# Altium integrated library Actel ACT 2.IntLib: 87 symbols (part 5 of 5)
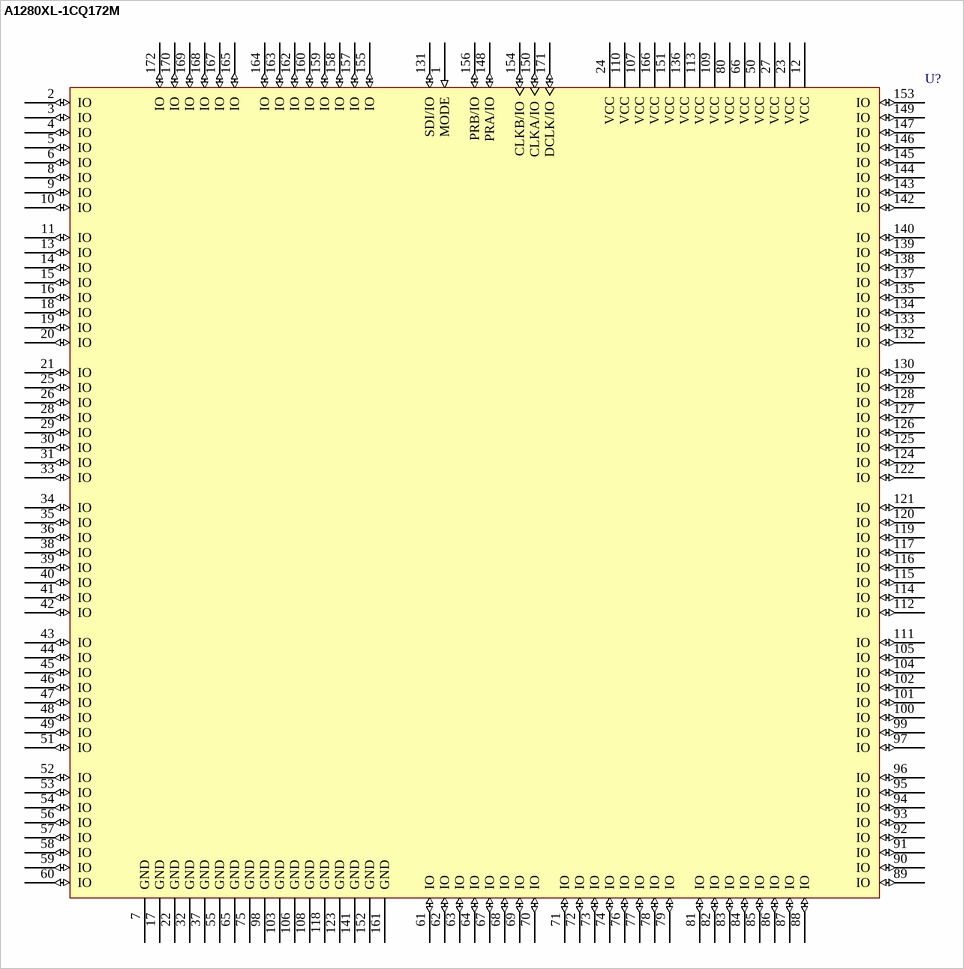
[diagram p65: symbol A1280XL-1CQ172M]

## A1280XL-1CQ172M
designator U?
1200XL Series FPGA, 140 User I/Os, 172 pin CQFP, Speed Grade 1, Military Grade; Published: 17-Sep-2003; LatestRevisionDate: 13-Apr-2006; LatestRevisionNote: IPC-7351 Footprint Added.; DatasheetVersion: ver3.0, Jan-2000; PackageVersion: v9.2, Apr-2006; PackageReference: CQ172; Publisher: Altium Limited; PackageDescription: 172-Pin Ceramic Quad Flat Pack (CQFP); Code_JEDEC: MO-113-AE; ComponentLink1Description: Manufacturer Link; ComponentLink1URL: http://www.actel.com/; ComponentLink2Description: Datasheet; ComponentLink2URL: http://www.actel.com/documents/HIRELDS.pdf
footprint CQ172_N (CQFP, 172-Leads, Body 30x30mm; Pitch 0.635mm, Gullwing Leadform, IPC Medium Density)
footprint CQ172_L (CQFP, 172-Leads, Body 30x30mm; Pitch 0.635mm, Gullwing Leadform, IPC High Density)
footprint CQ172_M (CQFP, 172-Leads, Body 30x30mm; Pitch 0.635mm, Gullwing Leadform, IPC Low Density)
3D model A1280XL-CQ172 (172-Pin Ceramic Quad Flat Pack (CQFP))
pins: 1 MODE (in), 2 IO (io), 3 IO (io), 4 IO (io), 5 IO (io), 6 IO (io), 7 GND (power), 8 IO (io), 9 IO (io), 10 IO (io), 11 IO (io), 12 VCC (power), 13 IO (io), 14 IO (io), 15 IO (io), 16 IO (io), 17 GND (power), 18 IO (io), 19 IO (io), 20 IO (io), 21 IO (io), 22 GND (power), 23 VCC (power), 24 VCC (power), 25 IO (io), 26 IO (io), 27 VCC (power), 28 IO (io), 29 IO (io), 30 IO (io), 31 IO (io), 32 GND (power), 33 IO (io), 34 IO (io), 35 IO (io), 36 IO (io), 37 GND (power), 38 IO (io), 39 IO (io), 40 IO (io), 41 IO (io), 42 IO (io), 43 IO (io), 44 IO (io), 45 IO (io), 46 IO (io), 47 IO (io), 48 IO (io), 49 IO (io), 50 VCC (power), 51 IO (io), 52 IO (io), 53 IO (io), 54 IO (io), 55 GND (power), 56 IO (io), 57 IO (io), 58 IO (io), 59 IO (io), 60 IO (io), 61 IO (io), 62 IO (io), 63 IO (io), 64 IO (io), 65 GND (power), 66 VCC (power), 67 IO (io), 68 IO (io), 69 IO (io), 70 IO (io), 71 IO (io), 72 IO (io), 73 IO (io), 74 IO (io), 75 GND (power), 76 IO (io), 77 IO (io), 78 IO (io), 79 IO (io), 80 VCC (power), 81 IO (io), 82 IO (io), 83 IO (io), 84 IO (io), 85 IO (io), 86 IO (io), 87 IO (io), 88 IO (io), 89 IO (io), 90 IO (io), 91 IO (io), 92 IO (io), 93 IO (io), 94 IO (io), 95 IO (io), 96 IO (io), 97 IO (io), 98 GND (power), 99 IO (io), 100 IO (io), 101 IO (io), 102 IO (io), 103 GND (power), 104 IO (io), 105 IO (io), 106 GND (power), 107 VCC (power), 108 GND (power), 109 VCC (power), 110 VCC (power), 111 IO (io), 112 IO (io), 113 VCC (power), 114 IO (io), 115 IO (io), 116 IO (io), 117 IO (io), 118 GND (power), 119 IO (io), 120 IO (io), 121 IO (io), 122 IO (io), 123 GND (power), 124 IO (io), 125 IO (io), 126 IO (io), 127 IO (io), 128 IO (io), 129 IO (io), 130 IO (io), 131 SDI/IO (io), 132 IO (io), 133 IO (io), 134 IO (io), 135 IO (io), 136 VCC (power), 137 IO (io), 138 IO (io), 139 IO (io), 140 IO (io), 141 GND (power), 142 IO (io), 143 IO (io), 144 IO (io), 145 IO (io), 146 IO (io), 147 IO (io), 148 PRA/IO (io), 149 IO (io), 150 CLKA/IO (io), 151 VCC (power), 152 GND (power), 153 IO (io), 154 CLKB/IO (io), 155 IO (io), 156 PRB/IO (io), 157 IO (io), 158 IO (io), 159 IO (io), 160 IO (io), 161 GND (power), 162 IO (io), 163 IO (io), 164 IO (io), 165 IO (io), 166 VCC (power), 167 IO (io), 168 IO (io), 169 IO (io), 170 IO (io), 171 DCLK/IO (io), 172 IO (io)

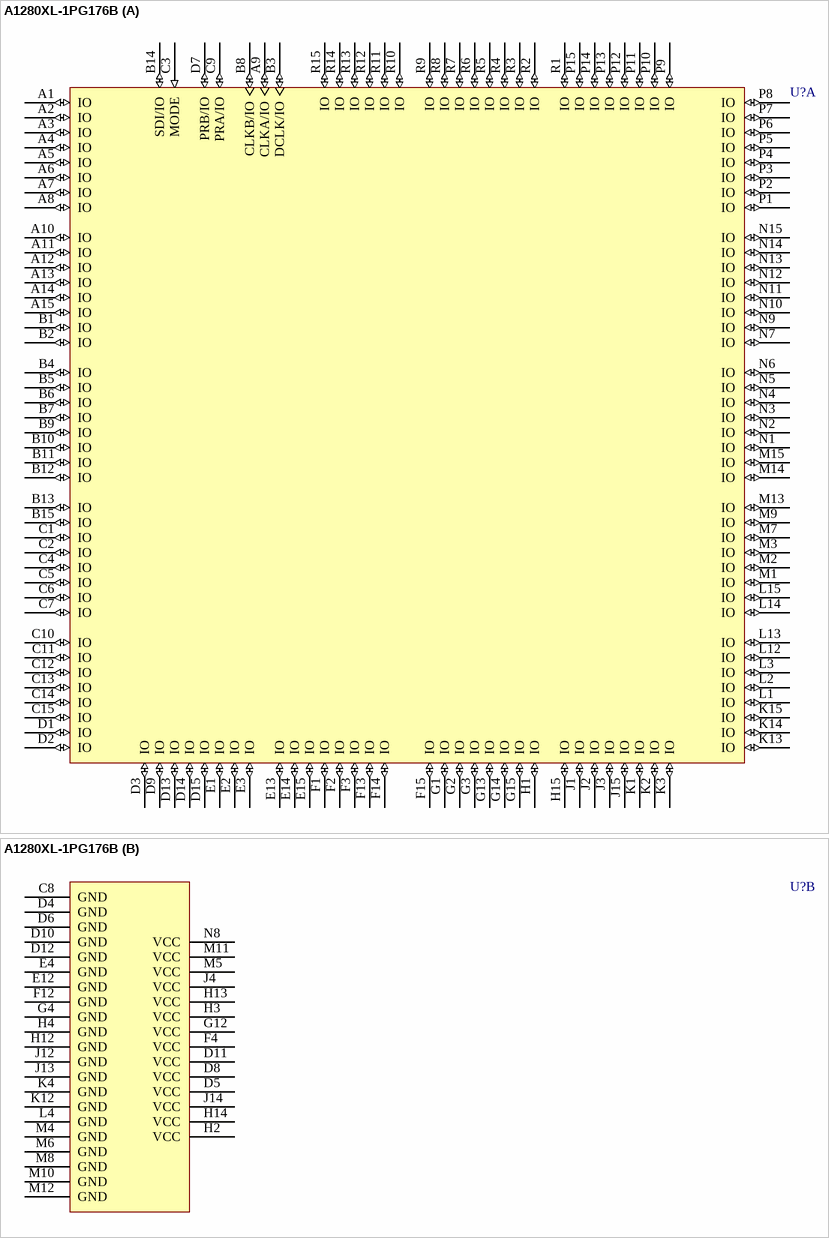
[diagram p48: symbol A1280XL-1PG176B]

## A1280XL-1PG176B
designator U?
1200XL Series FPGA, 140 User I/Os, 176 pin CPGA, Speed Grade 1, MIL-STD-883 Grade; Published: 17-Sep-2003; LatestRevisionDate: 04-Mar-2005; LatestRevisionNote: Stylized 3D Model Added.; DatasheetVersion: ver3.0, Jan-2000; PackageVersion: v9.2, Apr-2006; PackageReference: PG176; Publisher: Altium Limited; PackageDescription: 176-Pin Ceramic Pin Grid Array (PG176); ComponentLink1Description: Manufacturer Link; ComponentLink1URL: http://www.actel.com/; ComponentLink2Description: Datasheet; ComponentLink2URL: http://www.actel.com/documents/HIRELDS.pdf
footprint PG176 (PGA, 176-Leads, Body 39.9x39.9mm, Pitch 2.54mm)
3D model A1280XL-PG176 (176-Pin Ceramic Pin Grid Array (PG176))
part A pins: A1 IO (io), A2 IO (io), A3 IO (io), A4 IO (io), A5 IO (io), A6 IO (io), A7 IO (io), A8 IO (io), A9 CLKA/IO (io), A10 IO (io), A11 IO (io), A12 IO (io), A13 IO (io), A14 IO (io), A15 IO (io), B1 IO (io), B2 IO (io), B3 DCLK/IO (io), B4 IO (io), B5 IO (io), B6 IO (io), B7 IO (io), B8 CLKB/IO (io), B9 IO (io), B10 IO (io), B11 IO (io), B12 IO (io), B13 IO (io), B14 SDI/IO (io), B15 IO (io), C1 IO (io), C2 IO (io), C3 MODE (in), C4 IO (io), C5 IO (io), C6 IO (io), C7 IO (io), C9 PRA/IO (io), C10 IO (io), C11 IO (io), C12 IO (io), C13 IO (io), C14 IO (io), C15 IO (io), D1 IO (io), D2 IO (io), D3 IO (io), D7 PRB/IO (io), D9 IO (io), D13 IO (io), D14 IO (io), D15 IO (io), E1 IO (io), E2 IO (io), E3 IO (io), E13 IO (io), E14 IO (io), E15 IO (io), F1 IO (io), F2 IO (io), F3 IO (io), F13 IO (io), F14 IO (io), F15 IO (io), G1 IO (io), G2 IO (io), G3 IO (io), G13 IO (io), G14 IO (io), G15 IO (io), H1 IO (io), H15 IO (io), J1 IO (io), J2 IO (io), J3 IO (io), J15 IO (io), K1 IO (io), K2 IO (io), K3 IO (io), K13 IO (io), K14 IO (io), K15 IO (io), L1 IO (io), L2 IO (io), L3 IO (io), L12 IO (io), L13 IO (io), L14 IO (io), L15 IO (io), M1 IO (io), M2 IO (io), M3 IO (io), M7 IO (io), M9 IO (io), M13 IO (io), M14 IO (io), M15 IO (io), N1 IO (io), N2 IO (io), N3 IO (io), N4 IO (io), N5 IO (io), N6 IO (io), N7 IO (io), N9 IO (io), N10 IO (io), N11 IO (io), N12 IO (io), N13 IO (io), N14 IO (io), N15 IO (io), P1 IO (io), P2 IO (io), P3 IO (io), P4 IO (io), P5 IO (io), P6 IO (io), P7 IO (io), P8 IO (io), P9 IO (io), P10 IO (io), P11 IO (io), P12 IO (io), P13 IO (io), P14 IO (io), P15 IO (io), R1 IO (io), R2 IO (io), R3 IO (io), R4 IO (io), R5 IO (io), R6 IO (io), R7 IO (io), R8 IO (io), R9 IO (io), R10 IO (io), R11 IO (io), R12 IO (io), R13 IO (io), R14 IO (io), R15 IO (io)
part B pins: C8 GND (power), D4 GND (power), D5 VCC (power), D6 GND (power), D8 VCC (power), D10 GND (power), D11 VCC (power), D12 GND (power), E4 GND (power), E12 GND (power), F4 VCC (power), F12 GND (power), G4 GND (power), G12 VCC (power), H2 VCC (power), H3 VCC (power), H4 GND (power), H12 GND (power), H13 VCC (power), H14 VCC (power), J4 VCC (power), J12 GND (power), J13 GND (power), J14 VCC (power), K4 GND (power), K12 GND (power), L4 GND (power), M4 GND (power), M5 VCC (power), M6 GND (power), M8 GND (power), M10 GND (power), M11 VCC (power), M12 GND (power), N8 VCC (power)

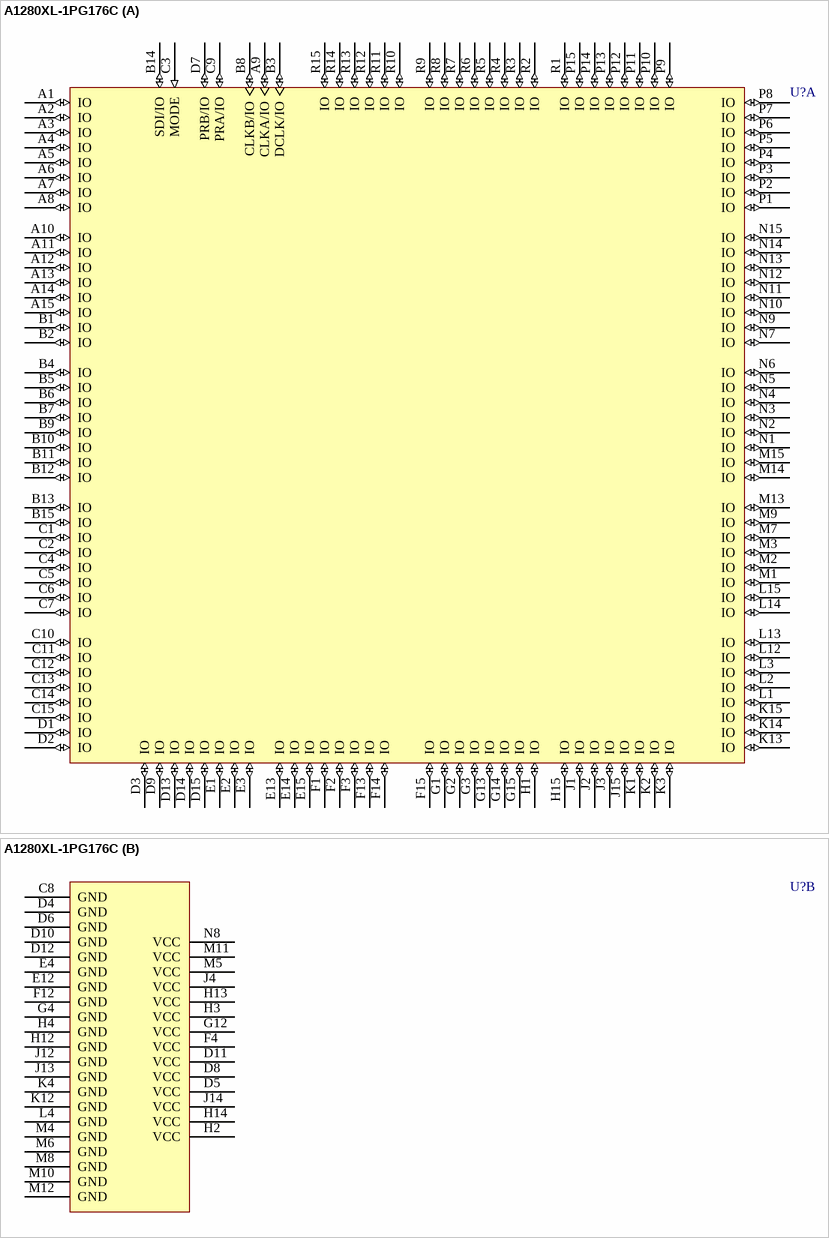
[diagram p49: symbol A1280XL-1PG176C]

## A1280XL-1PG176C
designator U?
1200XL Series FPGA, 140 User I/Os, 176 pin CPGA, Speed Grade 1, Commercial Grade; Published: 17-Sep-2003; LatestRevisionDate: 04-Mar-2005; LatestRevisionNote: Stylized 3D Model Added.; DatasheetVersion: ver3.0, Jan-2000; PackageVersion: v9.2, Apr-2006; PackageReference: PG176; Publisher: Altium Limited; PackageDescription: 176-Pin Ceramic Pin Grid Array (PG176); ComponentLink1Description: Manufacturer Link; ComponentLink1URL: http://www.actel.com/; ComponentLink2Description: Datasheet; ComponentLink2URL: http://www.actel.com/documents/HIRELDS.pdf
footprint PG176 (PGA, 176-Leads, Body 39.9x39.9mm, Pitch 2.54mm)
3D model A1280XL-PG176 (176-Pin Ceramic Pin Grid Array (PG176))
part A pins: A1 IO (io), A2 IO (io), A3 IO (io), A4 IO (io), A5 IO (io), A6 IO (io), A7 IO (io), A8 IO (io), A9 CLKA/IO (io), A10 IO (io), A11 IO (io), A12 IO (io), A13 IO (io), A14 IO (io), A15 IO (io), B1 IO (io), B2 IO (io), B3 DCLK/IO (io), B4 IO (io), B5 IO (io), B6 IO (io), B7 IO (io), B8 CLKB/IO (io), B9 IO (io), B10 IO (io), B11 IO (io), B12 IO (io), B13 IO (io), B14 SDI/IO (io), B15 IO (io), C1 IO (io), C2 IO (io), C3 MODE (in), C4 IO (io), C5 IO (io), C6 IO (io), C7 IO (io), C9 PRA/IO (io), C10 IO (io), C11 IO (io), C12 IO (io), C13 IO (io), C14 IO (io), C15 IO (io), D1 IO (io), D2 IO (io), D3 IO (io), D7 PRB/IO (io), D9 IO (io), D13 IO (io), D14 IO (io), D15 IO (io), E1 IO (io), E2 IO (io), E3 IO (io), E13 IO (io), E14 IO (io), E15 IO (io), F1 IO (io), F2 IO (io), F3 IO (io), F13 IO (io), F14 IO (io), F15 IO (io), G1 IO (io), G2 IO (io), G3 IO (io), G13 IO (io), G14 IO (io), G15 IO (io), H1 IO (io), H15 IO (io), J1 IO (io), J2 IO (io), J3 IO (io), J15 IO (io), K1 IO (io), K2 IO (io), K3 IO (io), K13 IO (io), K14 IO (io), K15 IO (io), L1 IO (io), L2 IO (io), L3 IO (io), L12 IO (io), L13 IO (io), L14 IO (io), L15 IO (io), M1 IO (io), M2 IO (io), M3 IO (io), M7 IO (io), M9 IO (io), M13 IO (io), M14 IO (io), M15 IO (io), N1 IO (io), N2 IO (io), N3 IO (io), N4 IO (io), N5 IO (io), N6 IO (io), N7 IO (io), N9 IO (io), N10 IO (io), N11 IO (io), N12 IO (io), N13 IO (io), N14 IO (io), N15 IO (io), P1 IO (io), P2 IO (io), P3 IO (io), P4 IO (io), P5 IO (io), P6 IO (io), P7 IO (io), P8 IO (io), P9 IO (io), P10 IO (io), P11 IO (io), P12 IO (io), P13 IO (io), P14 IO (io), P15 IO (io), R1 IO (io), R2 IO (io), R3 IO (io), R4 IO (io), R5 IO (io), R6 IO (io), R7 IO (io), R8 IO (io), R9 IO (io), R10 IO (io), R11 IO (io), R12 IO (io), R13 IO (io), R14 IO (io), R15 IO (io)
part B pins: C8 GND (power), D4 GND (power), D5 VCC (power), D6 GND (power), D8 VCC (power), D10 GND (power), D11 VCC (power), D12 GND (power), E4 GND (power), E12 GND (power), F4 VCC (power), F12 GND (power), G4 GND (power), G12 VCC (power), H2 VCC (power), H3 VCC (power), H4 GND (power), H12 GND (power), H13 VCC (power), H14 VCC (power), J4 VCC (power), J12 GND (power), J13 GND (power), J14 VCC (power), K4 GND (power), K12 GND (power), L4 GND (power), M4 GND (power), M5 VCC (power), M6 GND (power), M8 GND (power), M10 GND (power), M11 VCC (power), M12 GND (power), N8 VCC (power)

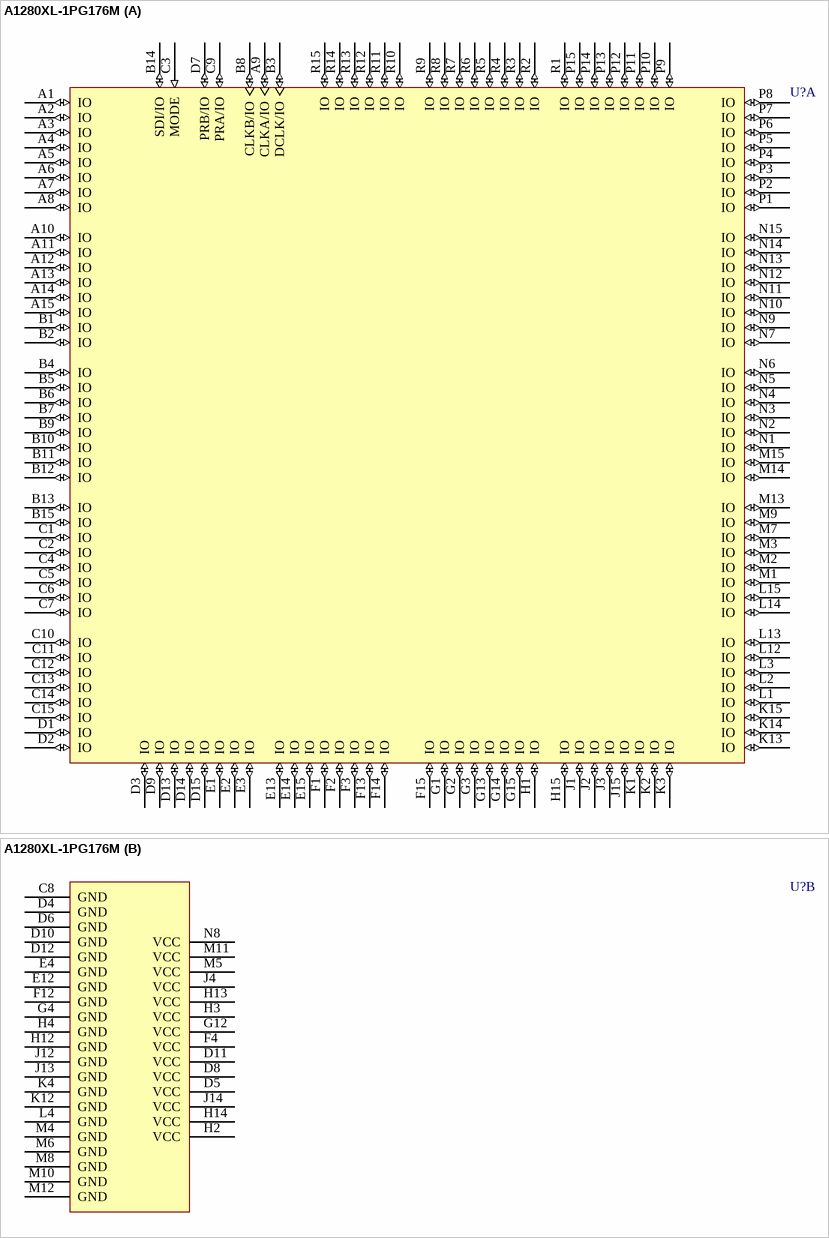
[diagram p50: symbol A1280XL-1PG176M]

## A1280XL-1PG176M
designator U?
1200XL Series FPGA, 140 User I/Os, 176 pin CPGA, Speed Grade 1, Military Grade; Published: 17-Sep-2003; LatestRevisionDate: 04-Mar-2005; LatestRevisionNote: Stylized 3D Model Added.; DatasheetVersion: ver3.0, Jan-2000; PackageVersion: v9.2, Apr-2006; PackageReference: PG176; Publisher: Altium Limited; PackageDescription: 176-Pin Ceramic Pin Grid Array (PG176); ComponentLink1Description: Manufacturer Link; ComponentLink1URL: http://www.actel.com/; ComponentLink2Description: Datasheet; ComponentLink2URL: http://www.actel.com/documents/HIRELDS.pdf
footprint PG176 (PGA, 176-Leads, Body 39.9x39.9mm, Pitch 2.54mm)
3D model A1280XL-PG176 (176-Pin Ceramic Pin Grid Array (PG176))
part A pins: A1 IO (io), A2 IO (io), A3 IO (io), A4 IO (io), A5 IO (io), A6 IO (io), A7 IO (io), A8 IO (io), A9 CLKA/IO (io), A10 IO (io), A11 IO (io), A12 IO (io), A13 IO (io), A14 IO (io), A15 IO (io), B1 IO (io), B2 IO (io), B3 DCLK/IO (io), B4 IO (io), B5 IO (io), B6 IO (io), B7 IO (io), B8 CLKB/IO (io), B9 IO (io), B10 IO (io), B11 IO (io), B12 IO (io), B13 IO (io), B14 SDI/IO (io), B15 IO (io), C1 IO (io), C2 IO (io), C3 MODE (in), C4 IO (io), C5 IO (io), C6 IO (io), C7 IO (io), C9 PRA/IO (io), C10 IO (io), C11 IO (io), C12 IO (io), C13 IO (io), C14 IO (io), C15 IO (io), D1 IO (io), D2 IO (io), D3 IO (io), D7 PRB/IO (io), D9 IO (io), D13 IO (io), D14 IO (io), D15 IO (io), E1 IO (io), E2 IO (io), E3 IO (io), E13 IO (io), E14 IO (io), E15 IO (io), F1 IO (io), F2 IO (io), F3 IO (io), F13 IO (io), F14 IO (io), F15 IO (io), G1 IO (io), G2 IO (io), G3 IO (io), G13 IO (io), G14 IO (io), G15 IO (io), H1 IO (io), H15 IO (io), J1 IO (io), J2 IO (io), J3 IO (io), J15 IO (io), K1 IO (io), K2 IO (io), K3 IO (io), K13 IO (io), K14 IO (io), K15 IO (io), L1 IO (io), L2 IO (io), L3 IO (io), L12 IO (io), L13 IO (io), L14 IO (io), L15 IO (io), M1 IO (io), M2 IO (io), M3 IO (io), M7 IO (io), M9 IO (io), M13 IO (io), M14 IO (io), M15 IO (io), N1 IO (io), N2 IO (io), N3 IO (io), N4 IO (io), N5 IO (io), N6 IO (io), N7 IO (io), N9 IO (io), N10 IO (io), N11 IO (io), N12 IO (io), N13 IO (io), N14 IO (io), N15 IO (io), P1 IO (io), P2 IO (io), P3 IO (io), P4 IO (io), P5 IO (io), P6 IO (io), P7 IO (io), P8 IO (io), P9 IO (io), P10 IO (io), P11 IO (io), P12 IO (io), P13 IO (io), P14 IO (io), P15 IO (io), R1 IO (io), R2 IO (io), R3 IO (io), R4 IO (io), R5 IO (io), R6 IO (io), R7 IO (io), R8 IO (io), R9 IO (io), R10 IO (io), R11 IO (io), R12 IO (io), R13 IO (io), R14 IO (io), R15 IO (io)
part B pins: C8 GND (power), D4 GND (power), D5 VCC (power), D6 GND (power), D8 VCC (power), D10 GND (power), D11 VCC (power), D12 GND (power), E4 GND (power), E12 GND (power), F4 VCC (power), F12 GND (power), G4 GND (power), G12 VCC (power), H2 VCC (power), H3 VCC (power), H4 GND (power), H12 GND (power), H13 VCC (power), H14 VCC (power), J4 VCC (power), J12 GND (power), J13 GND (power), J14 VCC (power), K4 GND (power), K12 GND (power), L4 GND (power), M4 GND (power), M5 VCC (power), M6 GND (power), M8 GND (power), M10 GND (power), M11 VCC (power), M12 GND (power), N8 VCC (power)

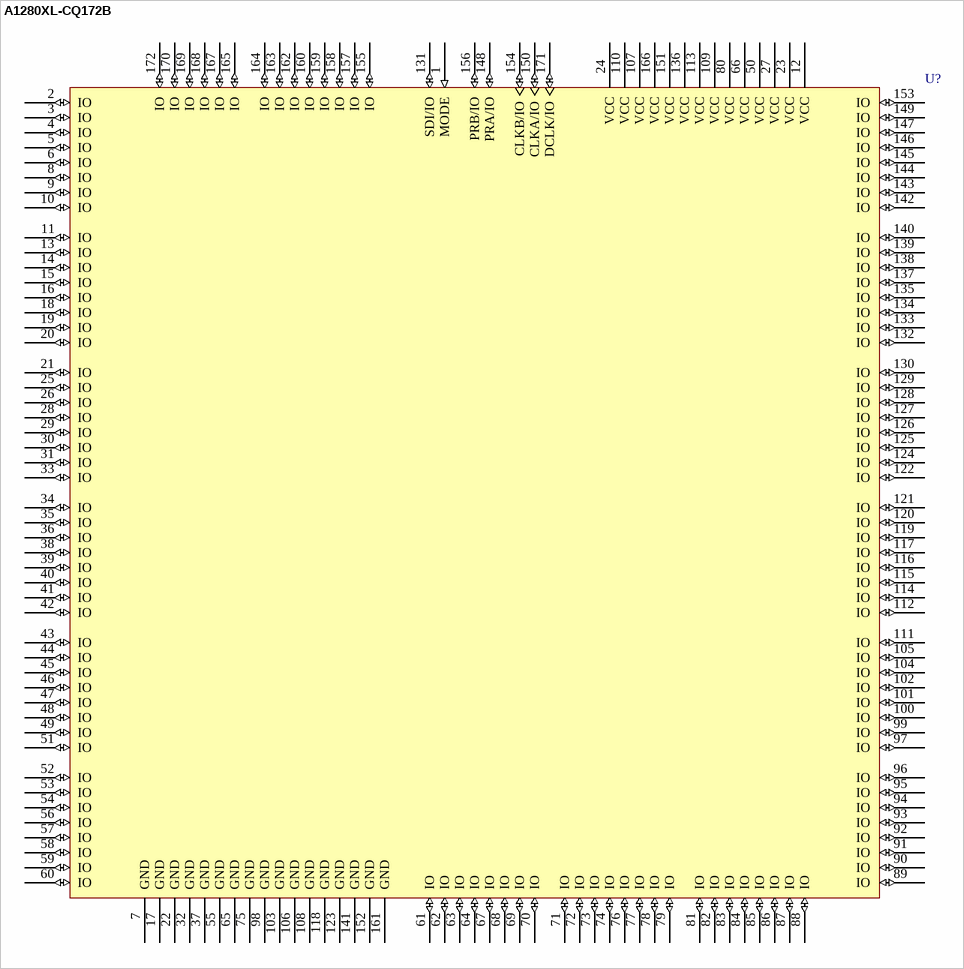
[diagram p51: symbol A1280XL-CQ172B]

## A1280XL-CQ172B
designator U?
1200XL Series FPGA, 140 User I/Os, 172 pin CQFP, Standard Speed Grade, MIL-STD-883 Grade; Published: 17-Sep-2003; LatestRevisionDate: 13-Apr-2006; LatestRevisionNote: IPC-7351 Footprint Added.; DatasheetVersion: ver3.0, Jan-2000; PackageVersion: v9.2, Apr-2006; PackageReference: CQ172; Publisher: Altium Limited; PackageDescription: 172-Pin Ceramic Quad Flat Pack (CQFP); Code_JEDEC: MO-113-AE; ComponentLink1Description: Manufacturer Link; ComponentLink1URL: http://www.actel.com/; ComponentLink2Description: Datasheet; ComponentLink2URL: http://www.actel.com/documents/HIRELDS.pdf
footprint CQ172_N (CQFP, 172-Leads, Body 30x30mm; Pitch 0.635mm, Gullwing Leadform, IPC Medium Density)
footprint CQ172_L (CQFP, 172-Leads, Body 30x30mm; Pitch 0.635mm, Gullwing Leadform, IPC High Density)
footprint CQ172_M (CQFP, 172-Leads, Body 30x30mm; Pitch 0.635mm, Gullwing Leadform, IPC Low Density)
3D model A1280XL-CQ172 (172-Pin Ceramic Quad Flat Pack (CQFP))
pins: 1 MODE (in), 2 IO (io), 3 IO (io), 4 IO (io), 5 IO (io), 6 IO (io), 7 GND (power), 8 IO (io), 9 IO (io), 10 IO (io), 11 IO (io), 12 VCC (power), 13 IO (io), 14 IO (io), 15 IO (io), 16 IO (io), 17 GND (power), 18 IO (io), 19 IO (io), 20 IO (io), 21 IO (io), 22 GND (power), 23 VCC (power), 24 VCC (power), 25 IO (io), 26 IO (io), 27 VCC (power), 28 IO (io), 29 IO (io), 30 IO (io), 31 IO (io), 32 GND (power), 33 IO (io), 34 IO (io), 35 IO (io), 36 IO (io), 37 GND (power), 38 IO (io), 39 IO (io), 40 IO (io), 41 IO (io), 42 IO (io), 43 IO (io), 44 IO (io), 45 IO (io), 46 IO (io), 47 IO (io), 48 IO (io), 49 IO (io), 50 VCC (power), 51 IO (io), 52 IO (io), 53 IO (io), 54 IO (io), 55 GND (power), 56 IO (io), 57 IO (io), 58 IO (io), 59 IO (io), 60 IO (io), 61 IO (io), 62 IO (io), 63 IO (io), 64 IO (io), 65 GND (power), 66 VCC (power), 67 IO (io), 68 IO (io), 69 IO (io), 70 IO (io), 71 IO (io), 72 IO (io), 73 IO (io), 74 IO (io), 75 GND (power), 76 IO (io), 77 IO (io), 78 IO (io), 79 IO (io), 80 VCC (power), 81 IO (io), 82 IO (io), 83 IO (io), 84 IO (io), 85 IO (io), 86 IO (io), 87 IO (io), 88 IO (io), 89 IO (io), 90 IO (io), 91 IO (io), 92 IO (io), 93 IO (io), 94 IO (io), 95 IO (io), 96 IO (io), 97 IO (io), 98 GND (power), 99 IO (io), 100 IO (io), 101 IO (io), 102 IO (io), 103 GND (power), 104 IO (io), 105 IO (io), 106 GND (power), 107 VCC (power), 108 GND (power), 109 VCC (power), 110 VCC (power), 111 IO (io), 112 IO (io), 113 VCC (power), 114 IO (io), 115 IO (io), 116 IO (io), 117 IO (io), 118 GND (power), 119 IO (io), 120 IO (io), 121 IO (io), 122 IO (io), 123 GND (power), 124 IO (io), 125 IO (io), 126 IO (io), 127 IO (io), 128 IO (io), 129 IO (io), 130 IO (io), 131 SDI/IO (io), 132 IO (io), 133 IO (io), 134 IO (io), 135 IO (io), 136 VCC (power), 137 IO (io), 138 IO (io), 139 IO (io), 140 IO (io), 141 GND (power), 142 IO (io), 143 IO (io), 144 IO (io), 145 IO (io), 146 IO (io), 147 IO (io), 148 PRA/IO (io), 149 IO (io), 150 CLKA/IO (io), 151 VCC (power), 152 GND (power), 153 IO (io), 154 CLKB/IO (io), 155 IO (io), 156 PRB/IO (io), 157 IO (io), 158 IO (io), 159 IO (io), 160 IO (io), 161 GND (power), 162 IO (io), 163 IO (io), 164 IO (io), 165 IO (io), 166 VCC (power), 167 IO (io), 168 IO (io), 169 IO (io), 170 IO (io), 171 DCLK/IO (io), 172 IO (io)

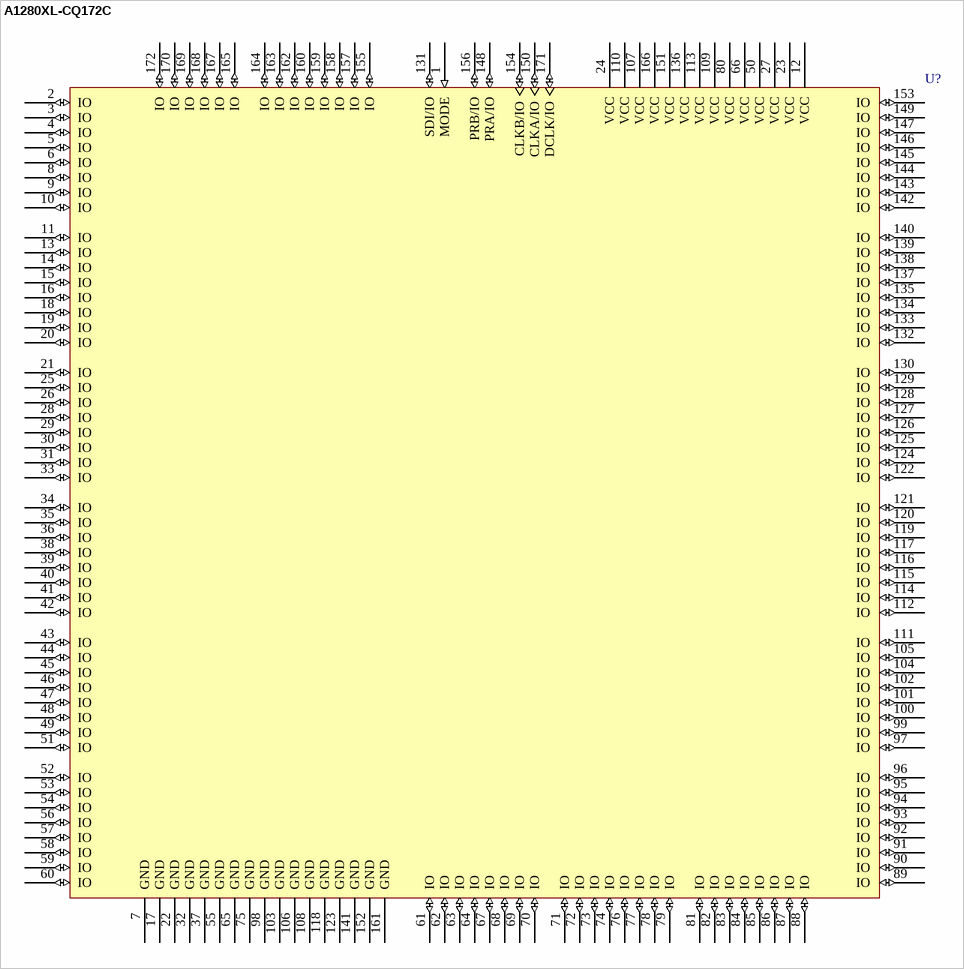
[diagram p52: symbol A1280XL-CQ172C]

## A1280XL-CQ172C
designator U?
1200XL Series FPGA, 140 User I/Os, 172 pin CQFP, Standard Speed Grade, Commercial Grade; Published: 17-Sep-2003; LatestRevisionDate: 13-Apr-2006; LatestRevisionNote: IPC-7351 Footprint Added.; DatasheetVersion: ver3.0, Jan-2000; PackageVersion: v9.2, Apr-2006; PackageReference: CQ172; Publisher: Altium Limited; PackageDescription: 172-Pin Ceramic Quad Flat Pack (CQFP); Code_JEDEC: MO-113-AE; ComponentLink1Description: Manufacturer Link; ComponentLink1URL: http://www.actel.com/; ComponentLink2Description: Datasheet; ComponentLink2URL: http://www.actel.com/documents/HIRELDS.pdf
footprint CQ172_N (CQFP, 172-Leads, Body 30x30mm; Pitch 0.635mm, Gullwing Leadform, IPC Medium Density)
footprint CQ172_L (CQFP, 172-Leads, Body 30x30mm; Pitch 0.635mm, Gullwing Leadform, IPC High Density)
footprint CQ172_M (CQFP, 172-Leads, Body 30x30mm; Pitch 0.635mm, Gullwing Leadform, IPC Low Density)
3D model A1280XL-CQ172 (172-Pin Ceramic Quad Flat Pack (CQFP))
pins: 1 MODE (in), 2 IO (io), 3 IO (io), 4 IO (io), 5 IO (io), 6 IO (io), 7 GND (power), 8 IO (io), 9 IO (io), 10 IO (io), 11 IO (io), 12 VCC (power), 13 IO (io), 14 IO (io), 15 IO (io), 16 IO (io), 17 GND (power), 18 IO (io), 19 IO (io), 20 IO (io), 21 IO (io), 22 GND (power), 23 VCC (power), 24 VCC (power), 25 IO (io), 26 IO (io), 27 VCC (power), 28 IO (io), 29 IO (io), 30 IO (io), 31 IO (io), 32 GND (power), 33 IO (io), 34 IO (io), 35 IO (io), 36 IO (io), 37 GND (power), 38 IO (io), 39 IO (io), 40 IO (io), 41 IO (io), 42 IO (io), 43 IO (io), 44 IO (io), 45 IO (io), 46 IO (io), 47 IO (io), 48 IO (io), 49 IO (io), 50 VCC (power), 51 IO (io), 52 IO (io), 53 IO (io), 54 IO (io), 55 GND (power), 56 IO (io), 57 IO (io), 58 IO (io), 59 IO (io), 60 IO (io), 61 IO (io), 62 IO (io), 63 IO (io), 64 IO (io), 65 GND (power), 66 VCC (power), 67 IO (io), 68 IO (io), 69 IO (io), 70 IO (io), 71 IO (io), 72 IO (io), 73 IO (io), 74 IO (io), 75 GND (power), 76 IO (io), 77 IO (io), 78 IO (io), 79 IO (io), 80 VCC (power), 81 IO (io), 82 IO (io), 83 IO (io), 84 IO (io), 85 IO (io), 86 IO (io), 87 IO (io), 88 IO (io), 89 IO (io), 90 IO (io), 91 IO (io), 92 IO (io), 93 IO (io), 94 IO (io), 95 IO (io), 96 IO (io), 97 IO (io), 98 GND (power), 99 IO (io), 100 IO (io), 101 IO (io), 102 IO (io), 103 GND (power), 104 IO (io), 105 IO (io), 106 GND (power), 107 VCC (power), 108 GND (power), 109 VCC (power), 110 VCC (power), 111 IO (io), 112 IO (io), 113 VCC (power), 114 IO (io), 115 IO (io), 116 IO (io), 117 IO (io), 118 GND (power), 119 IO (io), 120 IO (io), 121 IO (io), 122 IO (io), 123 GND (power), 124 IO (io), 125 IO (io), 126 IO (io), 127 IO (io), 128 IO (io), 129 IO (io), 130 IO (io), 131 SDI/IO (io), 132 IO (io), 133 IO (io), 134 IO (io), 135 IO (io), 136 VCC (power), 137 IO (io), 138 IO (io), 139 IO (io), 140 IO (io), 141 GND (power), 142 IO (io), 143 IO (io), 144 IO (io), 145 IO (io), 146 IO (io), 147 IO (io), 148 PRA/IO (io), 149 IO (io), 150 CLKA/IO (io), 151 VCC (power), 152 GND (power), 153 IO (io), 154 CLKB/IO (io), 155 IO (io), 156 PRB/IO (io), 157 IO (io), 158 IO (io), 159 IO (io), 160 IO (io), 161 GND (power), 162 IO (io), 163 IO (io), 164 IO (io), 165 IO (io), 166 VCC (power), 167 IO (io), 168 IO (io), 169 IO (io), 170 IO (io), 171 DCLK/IO (io), 172 IO (io)

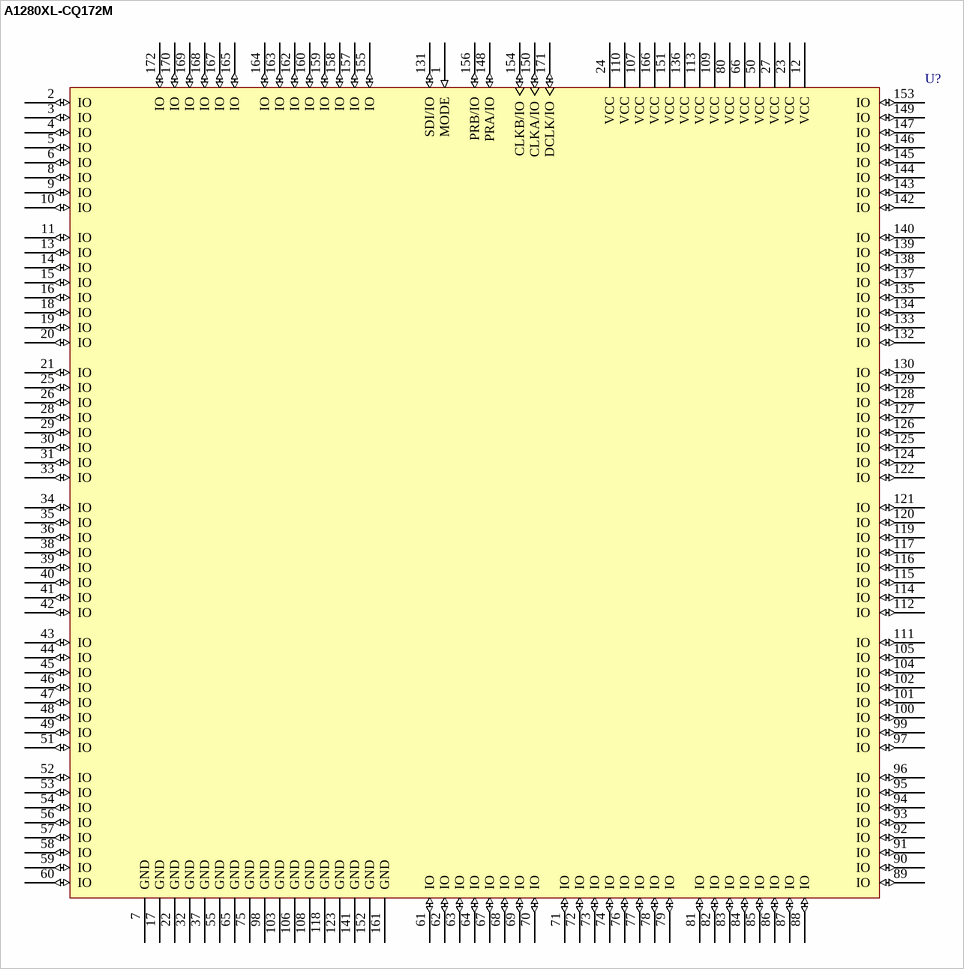
[diagram p53: symbol A1280XL-CQ172M]

## A1280XL-CQ172M
designator U?
1200XL Series FPGA, 140 User I/Os, 172 pin CQFP, Standard Speed Grade, Military Grade; Published: 17-Sep-2003; LatestRevisionDate: 13-Apr-2006; LatestRevisionNote: IPC-7351 Footprint Added.; DatasheetVersion: ver3.0, Jan-2000; PackageVersion: v9.2, Apr-2006; PackageReference: CQ172; Publisher: Altium Limited; PackageDescription: 172-Pin Ceramic Quad Flat Pack (CQFP); Code_JEDEC: MO-113-AE; ComponentLink1Description: Manufacturer Link; ComponentLink1URL: http://www.actel.com/; ComponentLink2Description: Datasheet; ComponentLink2URL: http://www.actel.com/documents/HIRELDS.pdf
footprint CQ172_N (CQFP, 172-Leads, Body 30x30mm; Pitch 0.635mm, Gullwing Leadform, IPC Medium Density)
footprint CQ172_L (CQFP, 172-Leads, Body 30x30mm; Pitch 0.635mm, Gullwing Leadform, IPC High Density)
footprint CQ172_M (CQFP, 172-Leads, Body 30x30mm; Pitch 0.635mm, Gullwing Leadform, IPC Low Density)
3D model A1280XL-CQ172 (172-Pin Ceramic Quad Flat Pack (CQFP))
pins: 1 MODE (in), 2 IO (io), 3 IO (io), 4 IO (io), 5 IO (io), 6 IO (io), 7 GND (power), 8 IO (io), 9 IO (io), 10 IO (io), 11 IO (io), 12 VCC (power), 13 IO (io), 14 IO (io), 15 IO (io), 16 IO (io), 17 GND (power), 18 IO (io), 19 IO (io), 20 IO (io), 21 IO (io), 22 GND (power), 23 VCC (power), 24 VCC (power), 25 IO (io), 26 IO (io), 27 VCC (power), 28 IO (io), 29 IO (io), 30 IO (io), 31 IO (io), 32 GND (power), 33 IO (io), 34 IO (io), 35 IO (io), 36 IO (io), 37 GND (power), 38 IO (io), 39 IO (io), 40 IO (io), 41 IO (io), 42 IO (io), 43 IO (io), 44 IO (io), 45 IO (io), 46 IO (io), 47 IO (io), 48 IO (io), 49 IO (io), 50 VCC (power), 51 IO (io), 52 IO (io), 53 IO (io), 54 IO (io), 55 GND (power), 56 IO (io), 57 IO (io), 58 IO (io), 59 IO (io), 60 IO (io), 61 IO (io), 62 IO (io), 63 IO (io), 64 IO (io), 65 GND (power), 66 VCC (power), 67 IO (io), 68 IO (io), 69 IO (io), 70 IO (io), 71 IO (io), 72 IO (io), 73 IO (io), 74 IO (io), 75 GND (power), 76 IO (io), 77 IO (io), 78 IO (io), 79 IO (io), 80 VCC (power), 81 IO (io), 82 IO (io), 83 IO (io), 84 IO (io), 85 IO (io), 86 IO (io), 87 IO (io), 88 IO (io), 89 IO (io), 90 IO (io), 91 IO (io), 92 IO (io), 93 IO (io), 94 IO (io), 95 IO (io), 96 IO (io), 97 IO (io), 98 GND (power), 99 IO (io), 100 IO (io), 101 IO (io), 102 IO (io), 103 GND (power), 104 IO (io), 105 IO (io), 106 GND (power), 107 VCC (power), 108 GND (power), 109 VCC (power), 110 VCC (power), 111 IO (io), 112 IO (io), 113 VCC (power), 114 IO (io), 115 IO (io), 116 IO (io), 117 IO (io), 118 GND (power), 119 IO (io), 120 IO (io), 121 IO (io), 122 IO (io), 123 GND (power), 124 IO (io), 125 IO (io), 126 IO (io), 127 IO (io), 128 IO (io), 129 IO (io), 130 IO (io), 131 SDI/IO (io), 132 IO (io), 133 IO (io), 134 IO (io), 135 IO (io), 136 VCC (power), 137 IO (io), 138 IO (io), 139 IO (io), 140 IO (io), 141 GND (power), 142 IO (io), 143 IO (io), 144 IO (io), 145 IO (io), 146 IO (io), 147 IO (io), 148 PRA/IO (io), 149 IO (io), 150 CLKA/IO (io), 151 VCC (power), 152 GND (power), 153 IO (io), 154 CLKB/IO (io), 155 IO (io), 156 PRB/IO (io), 157 IO (io), 158 IO (io), 159 IO (io), 160 IO (io), 161 GND (power), 162 IO (io), 163 IO (io), 164 IO (io), 165 IO (io), 166 VCC (power), 167 IO (io), 168 IO (io), 169 IO (io), 170 IO (io), 171 DCLK/IO (io), 172 IO (io)

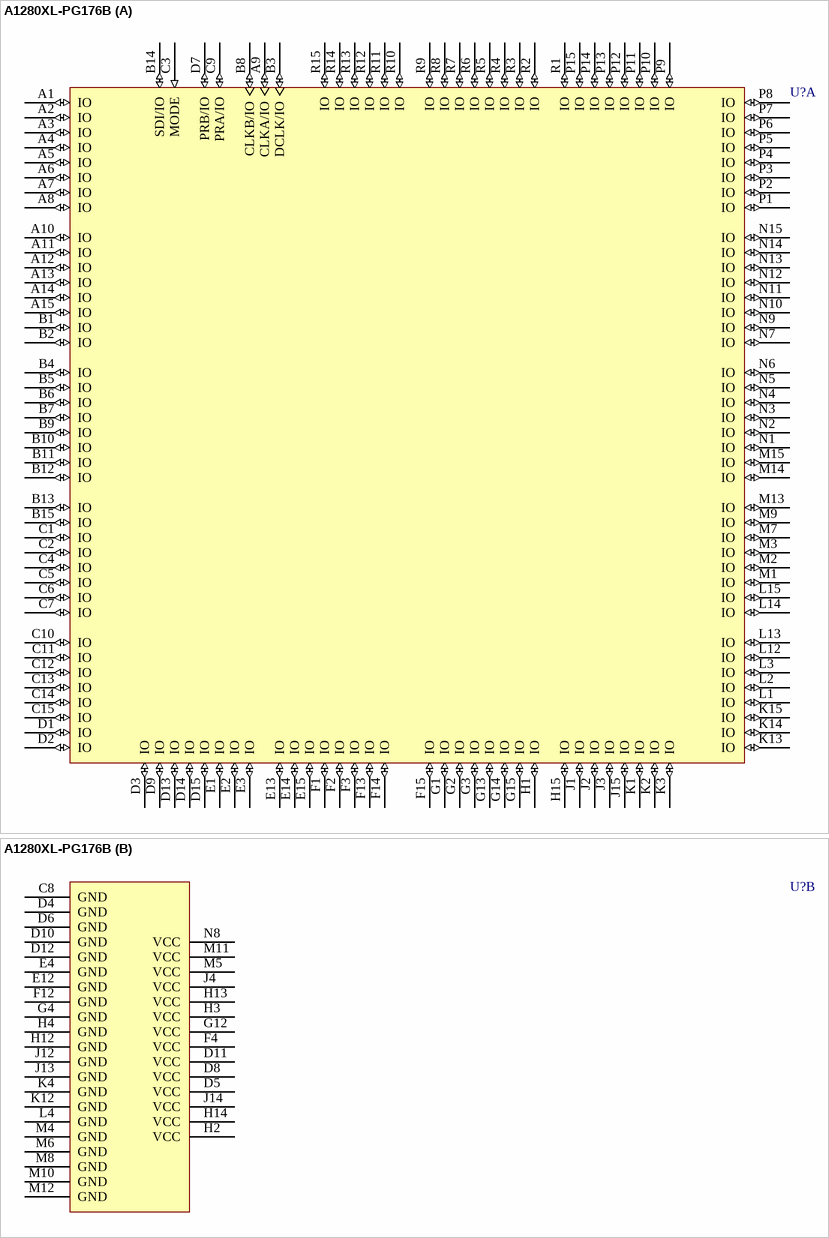
[diagram p54: symbol A1280XL-PG176B]

## A1280XL-PG176B
designator U?
1200XL Series FPGA, 140 User I/Os, 176 pin CPGA, Standard Speed Grade, MIL-STD-883 Grade; Published: 17-Sep-2003; LatestRevisionDate: 04-Mar-2005; LatestRevisionNote: Stylized 3D Model Added.; DatasheetVersion: ver3.0, Jan-2000; PackageVersion: v9.2, Apr-2006; PackageReference: PG176; Publisher: Altium Limited; PackageDescription: 176-Pin Ceramic Pin Grid Array (PG176); ComponentLink1Description: Manufacturer Link; ComponentLink1URL: http://www.actel.com/; ComponentLink2Description: Datasheet; ComponentLink2URL: http://www.actel.com/documents/HIRELDS.pdf
footprint PG176 (PGA, 176-Leads, Body 39.9x39.9mm, Pitch 2.54mm)
3D model A1280XL-PG176 (176-Pin Ceramic Pin Grid Array (PG176))
part A pins: A1 IO (io), A2 IO (io), A3 IO (io), A4 IO (io), A5 IO (io), A6 IO (io), A7 IO (io), A8 IO (io), A9 CLKA/IO (io), A10 IO (io), A11 IO (io), A12 IO (io), A13 IO (io), A14 IO (io), A15 IO (io), B1 IO (io), B2 IO (io), B3 DCLK/IO (io), B4 IO (io), B5 IO (io), B6 IO (io), B7 IO (io), B8 CLKB/IO (io), B9 IO (io), B10 IO (io), B11 IO (io), B12 IO (io), B13 IO (io), B14 SDI/IO (io), B15 IO (io), C1 IO (io), C2 IO (io), C3 MODE (in), C4 IO (io), C5 IO (io), C6 IO (io), C7 IO (io), C9 PRA/IO (io), C10 IO (io), C11 IO (io), C12 IO (io), C13 IO (io), C14 IO (io), C15 IO (io), D1 IO (io), D2 IO (io), D3 IO (io), D7 PRB/IO (io), D9 IO (io), D13 IO (io), D14 IO (io), D15 IO (io), E1 IO (io), E2 IO (io), E3 IO (io), E13 IO (io), E14 IO (io), E15 IO (io), F1 IO (io), F2 IO (io), F3 IO (io), F13 IO (io), F14 IO (io), F15 IO (io), G1 IO (io), G2 IO (io), G3 IO (io), G13 IO (io), G14 IO (io), G15 IO (io), H1 IO (io), H15 IO (io), J1 IO (io), J2 IO (io), J3 IO (io), J15 IO (io), K1 IO (io), K2 IO (io), K3 IO (io), K13 IO (io), K14 IO (io), K15 IO (io), L1 IO (io), L2 IO (io), L3 IO (io), L12 IO (io), L13 IO (io), L14 IO (io), L15 IO (io), M1 IO (io), M2 IO (io), M3 IO (io), M7 IO (io), M9 IO (io), M13 IO (io), M14 IO (io), M15 IO (io), N1 IO (io), N2 IO (io), N3 IO (io), N4 IO (io), N5 IO (io), N6 IO (io), N7 IO (io), N9 IO (io), N10 IO (io), N11 IO (io), N12 IO (io), N13 IO (io), N14 IO (io), N15 IO (io), P1 IO (io), P2 IO (io), P3 IO (io), P4 IO (io), P5 IO (io), P6 IO (io), P7 IO (io), P8 IO (io), P9 IO (io), P10 IO (io), P11 IO (io), P12 IO (io), P13 IO (io), P14 IO (io), P15 IO (io), R1 IO (io), R2 IO (io), R3 IO (io), R4 IO (io), R5 IO (io), R6 IO (io), R7 IO (io), R8 IO (io), R9 IO (io), R10 IO (io), R11 IO (io), R12 IO (io), R13 IO (io), R14 IO (io), R15 IO (io)
part B pins: C8 GND (power), D4 GND (power), D5 VCC (power), D6 GND (power), D8 VCC (power), D10 GND (power), D11 VCC (power), D12 GND (power), E4 GND (power), E12 GND (power), F4 VCC (power), F12 GND (power), G4 GND (power), G12 VCC (power), H2 VCC (power), H3 VCC (power), H4 GND (power), H12 GND (power), H13 VCC (power), H14 VCC (power), J4 VCC (power), J12 GND (power), J13 GND (power), J14 VCC (power), K4 GND (power), K12 GND (power), L4 GND (power), M4 GND (power), M5 VCC (power), M6 GND (power), M8 GND (power), M10 GND (power), M11 VCC (power), M12 GND (power), N8 VCC (power)

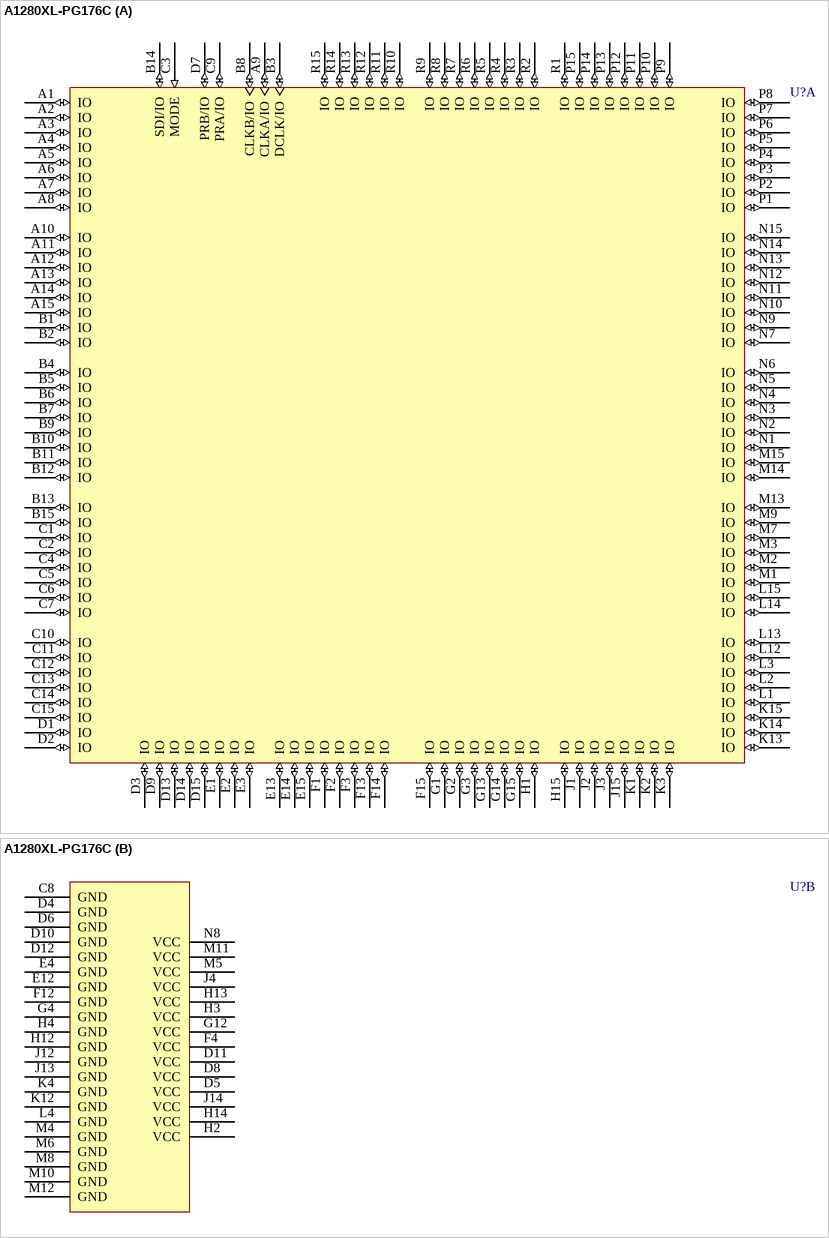
[diagram p55: symbol A1280XL-PG176C]

## A1280XL-PG176C
designator U?
1200XL Series FPGA, 140 User I/Os, 176 pin CPGA, Standard Speed Grade, Commercial Grade; Published: 17-Sep-2003; LatestRevisionDate: 04-Mar-2005; LatestRevisionNote: Stylized 3D Model Added.; DatasheetVersion: ver3.0, Jan-2000; PackageVersion: v9.2, Apr-2006; PackageReference: PG176; Publisher: Altium Limited; PackageDescription: 176-Pin Ceramic Pin Grid Array (PG176); ComponentLink1Description: Manufacturer Link; ComponentLink1URL: http://www.actel.com/; ComponentLink2Description: Datasheet; ComponentLink2URL: http://www.actel.com/documents/HIRELDS.pdf
footprint PG176 (PGA, 176-Leads, Body 39.9x39.9mm, Pitch 2.54mm)
3D model A1280XL-PG176 (176-Pin Ceramic Pin Grid Array (PG176))
part A pins: A1 IO (io), A2 IO (io), A3 IO (io), A4 IO (io), A5 IO (io), A6 IO (io), A7 IO (io), A8 IO (io), A9 CLKA/IO (io), A10 IO (io), A11 IO (io), A12 IO (io), A13 IO (io), A14 IO (io), A15 IO (io), B1 IO (io), B2 IO (io), B3 DCLK/IO (io), B4 IO (io), B5 IO (io), B6 IO (io), B7 IO (io), B8 CLKB/IO (io), B9 IO (io), B10 IO (io), B11 IO (io), B12 IO (io), B13 IO (io), B14 SDI/IO (io), B15 IO (io), C1 IO (io), C2 IO (io), C3 MODE (in), C4 IO (io), C5 IO (io), C6 IO (io), C7 IO (io), C9 PRA/IO (io), C10 IO (io), C11 IO (io), C12 IO (io), C13 IO (io), C14 IO (io), C15 IO (io), D1 IO (io), D2 IO (io), D3 IO (io), D7 PRB/IO (io), D9 IO (io), D13 IO (io), D14 IO (io), D15 IO (io), E1 IO (io), E2 IO (io), E3 IO (io), E13 IO (io), E14 IO (io), E15 IO (io), F1 IO (io), F2 IO (io), F3 IO (io), F13 IO (io), F14 IO (io), F15 IO (io), G1 IO (io), G2 IO (io), G3 IO (io), G13 IO (io), G14 IO (io), G15 IO (io), H1 IO (io), H15 IO (io), J1 IO (io), J2 IO (io), J3 IO (io), J15 IO (io), K1 IO (io), K2 IO (io), K3 IO (io), K13 IO (io), K14 IO (io), K15 IO (io), L1 IO (io), L2 IO (io), L3 IO (io), L12 IO (io), L13 IO (io), L14 IO (io), L15 IO (io), M1 IO (io), M2 IO (io), M3 IO (io), M7 IO (io), M9 IO (io), M13 IO (io), M14 IO (io), M15 IO (io), N1 IO (io), N2 IO (io), N3 IO (io), N4 IO (io), N5 IO (io), N6 IO (io), N7 IO (io), N9 IO (io), N10 IO (io), N11 IO (io), N12 IO (io), N13 IO (io), N14 IO (io), N15 IO (io), P1 IO (io), P2 IO (io), P3 IO (io), P4 IO (io), P5 IO (io), P6 IO (io), P7 IO (io), P8 IO (io), P9 IO (io), P10 IO (io), P11 IO (io), P12 IO (io), P13 IO (io), P14 IO (io), P15 IO (io), R1 IO (io), R2 IO (io), R3 IO (io), R4 IO (io), R5 IO (io), R6 IO (io), R7 IO (io), R8 IO (io), R9 IO (io), R10 IO (io), R11 IO (io), R12 IO (io), R13 IO (io), R14 IO (io), R15 IO (io)
part B pins: C8 GND (power), D4 GND (power), D5 VCC (power), D6 GND (power), D8 VCC (power), D10 GND (power), D11 VCC (power), D12 GND (power), E4 GND (power), E12 GND (power), F4 VCC (power), F12 GND (power), G4 GND (power), G12 VCC (power), H2 VCC (power), H3 VCC (power), H4 GND (power), H12 GND (power), H13 VCC (power), H14 VCC (power), J4 VCC (power), J12 GND (power), J13 GND (power), J14 VCC (power), K4 GND (power), K12 GND (power), L4 GND (power), M4 GND (power), M5 VCC (power), M6 GND (power), M8 GND (power), M10 GND (power), M11 VCC (power), M12 GND (power), N8 VCC (power)

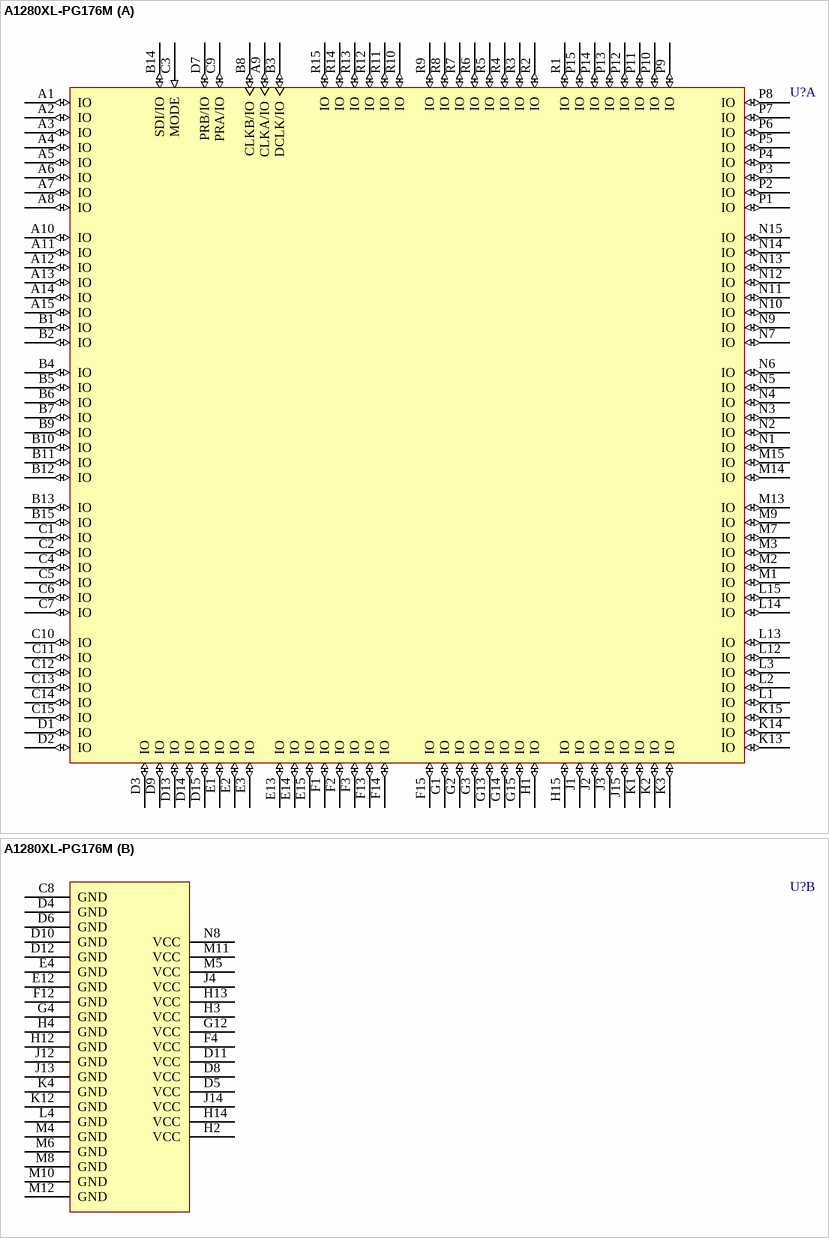
[diagram p56: symbol A1280XL-PG176M]

## A1280XL-PG176M
designator U?
1200XL Series FPGA, 140 User I/Os, 176 pin CPGA, Standard Speed Grade, Military Grade; Published: 17-Sep-2003; LatestRevisionDate: 04-Mar-2005; LatestRevisionNote: Stylized 3D Model Added.; DatasheetVersion: ver3.0, Jan-2000; PackageVersion: v9.2, Apr-2006; PackageReference: PG176; Publisher: Altium Limited; PackageDescription: 176-Pin Ceramic Pin Grid Array (PG176); ComponentLink1Description: Manufacturer Link; ComponentLink1URL: http://www.actel.com/; ComponentLink2Description: Datasheet; ComponentLink2URL: http://www.actel.com/documents/HIRELDS.pdf
footprint PG176 (PGA, 176-Leads, Body 39.9x39.9mm, Pitch 2.54mm)
3D model A1280XL-PG176 (176-Pin Ceramic Pin Grid Array (PG176))
part A pins: A1 IO (io), A2 IO (io), A3 IO (io), A4 IO (io), A5 IO (io), A6 IO (io), A7 IO (io), A8 IO (io), A9 CLKA/IO (io), A10 IO (io), A11 IO (io), A12 IO (io), A13 IO (io), A14 IO (io), A15 IO (io), B1 IO (io), B2 IO (io), B3 DCLK/IO (io), B4 IO (io), B5 IO (io), B6 IO (io), B7 IO (io), B8 CLKB/IO (io), B9 IO (io), B10 IO (io), B11 IO (io), B12 IO (io), B13 IO (io), B14 SDI/IO (io), B15 IO (io), C1 IO (io), C2 IO (io), C3 MODE (in), C4 IO (io), C5 IO (io), C6 IO (io), C7 IO (io), C9 PRA/IO (io), C10 IO (io), C11 IO (io), C12 IO (io), C13 IO (io), C14 IO (io), C15 IO (io), D1 IO (io), D2 IO (io), D3 IO (io), D7 PRB/IO (io), D9 IO (io), D13 IO (io), D14 IO (io), D15 IO (io), E1 IO (io), E2 IO (io), E3 IO (io), E13 IO (io), E14 IO (io), E15 IO (io), F1 IO (io), F2 IO (io), F3 IO (io), F13 IO (io), F14 IO (io), F15 IO (io), G1 IO (io), G2 IO (io), G3 IO (io), G13 IO (io), G14 IO (io), G15 IO (io), H1 IO (io), H15 IO (io), J1 IO (io), J2 IO (io), J3 IO (io), J15 IO (io), K1 IO (io), K2 IO (io), K3 IO (io), K13 IO (io), K14 IO (io), K15 IO (io), L1 IO (io), L2 IO (io), L3 IO (io), L12 IO (io), L13 IO (io), L14 IO (io), L15 IO (io), M1 IO (io), M2 IO (io), M3 IO (io), M7 IO (io), M9 IO (io), M13 IO (io), M14 IO (io), M15 IO (io), N1 IO (io), N2 IO (io), N3 IO (io), N4 IO (io), N5 IO (io), N6 IO (io), N7 IO (io), N9 IO (io), N10 IO (io), N11 IO (io), N12 IO (io), N13 IO (io), N14 IO (io), N15 IO (io), P1 IO (io), P2 IO (io), P3 IO (io), P4 IO (io), P5 IO (io), P6 IO (io), P7 IO (io), P8 IO (io), P9 IO (io), P10 IO (io), P11 IO (io), P12 IO (io), P13 IO (io), P14 IO (io), P15 IO (io), R1 IO (io), R2 IO (io), R3 IO (io), R4 IO (io), R5 IO (io), R6 IO (io), R7 IO (io), R8 IO (io), R9 IO (io), R10 IO (io), R11 IO (io), R12 IO (io), R13 IO (io), R14 IO (io), R15 IO (io)
part B pins: C8 GND (power), D4 GND (power), D5 VCC (power), D6 GND (power), D8 VCC (power), D10 GND (power), D11 VCC (power), D12 GND (power), E4 GND (power), E12 GND (power), F4 VCC (power), F12 GND (power), G4 GND (power), G12 VCC (power), H2 VCC (power), H3 VCC (power), H4 GND (power), H12 GND (power), H13 VCC (power), H14 VCC (power), J4 VCC (power), J12 GND (power), J13 GND (power), J14 VCC (power), K4 GND (power), K12 GND (power), L4 GND (power), M4 GND (power), M5 VCC (power), M6 GND (power), M8 GND (power), M10 GND (power), M11 VCC (power), M12 GND (power), N8 VCC (power)

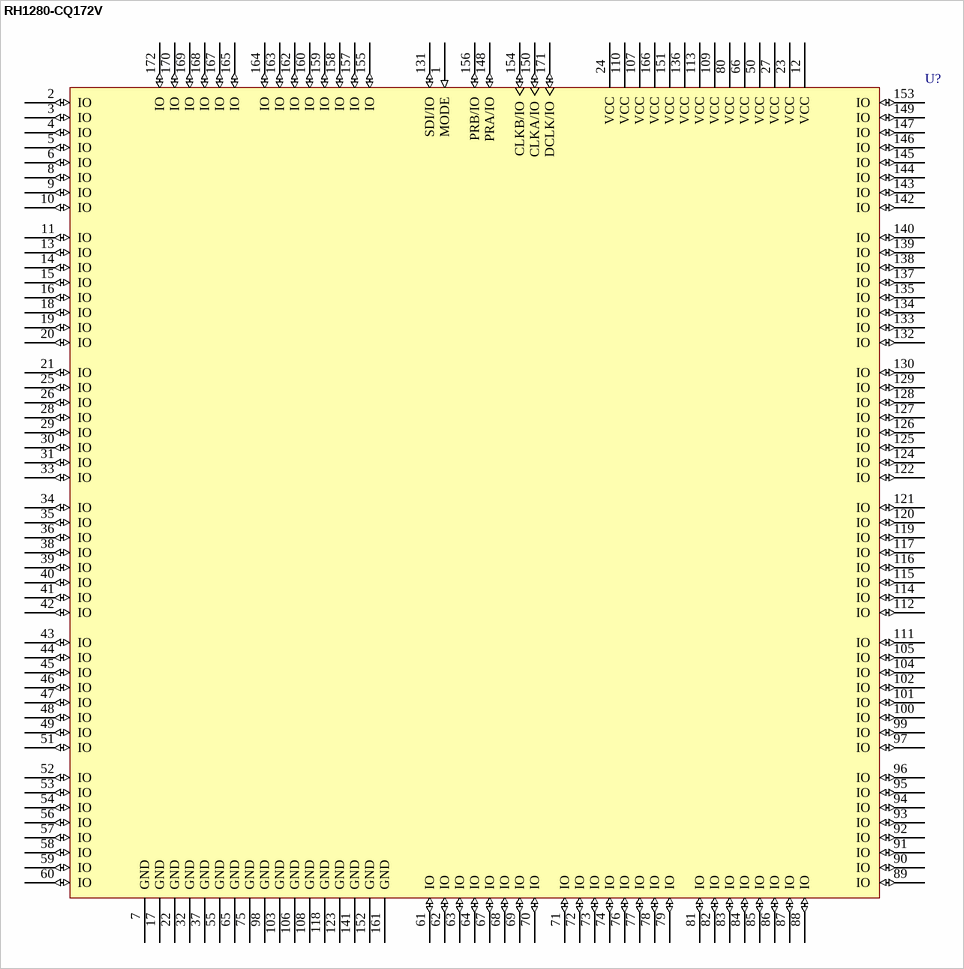
[diagram p57: symbol RH1280-CQ172V]

## RH1280-CQ172V
designator U?
ACT 2 Series, Radiation Hardened FPGA, 140 User I/Os, 172 pin CQFP, Standard Speed Grade, QML Qualified Grade; Published: 17-Sep-2003; LatestRevisionDate: 13-Apr-2006; LatestRevisionNote: IPC-7351 Footprint Added.; DatasheetVersion: ver3.1, Apr-2005; PackageVersion: v9.2, Apr-2006; PackageReference: CQ172; Publisher: Altium Limited; PackageDescription: 172-Pin Ceramic Quad Flat Pack (CQFP); Code_JEDEC: MO-113-AE; ComponentLink1Description: Manufacturer Link; ComponentLink1URL: http://www.actel.com/; ComponentLink2Description: DataSheet; ComponentLink2URL: http://www.actel.com/documents/RADHARDDS.pdf
footprint CQ172_N (CQFP, 172-Leads, Body 30x30mm; Pitch 0.635mm, Gullwing Leadform, IPC Medium Density)
footprint CQ172_L (CQFP, 172-Leads, Body 30x30mm; Pitch 0.635mm, Gullwing Leadform, IPC High Density)
footprint CQ172_M (CQFP, 172-Leads, Body 30x30mm; Pitch 0.635mm, Gullwing Leadform, IPC Low Density)
3D model RH1280-CQ172 (172-Pin Ceramic Quad Flat Pack (CQFP))
pins: 1 MODE (in), 2 IO (io), 3 IO (io), 4 IO (io), 5 IO (io), 6 IO (io), 7 GND (power), 8 IO (io), 9 IO (io), 10 IO (io), 11 IO (io), 12 VCC (power), 13 IO (io), 14 IO (io), 15 IO (io), 16 IO (io), 17 GND (power), 18 IO (io), 19 IO (io), 20 IO (io), 21 IO (io), 22 GND (power), 23 VCC (power), 24 VCC (power), 25 IO (io), 26 IO (io), 27 VCC (power), 28 IO (io), 29 IO (io), 30 IO (io), 31 IO (io), 32 GND (power), 33 IO (io), 34 IO (io), 35 IO (io), 36 IO (io), 37 GND (power), 38 IO (io), 39 IO (io), 40 IO (io), 41 IO (io), 42 IO (io), 43 IO (io), 44 IO (io), 45 IO (io), 46 IO (io), 47 IO (io), 48 IO (io), 49 IO (io), 50 VCC (power), 51 IO (io), 52 IO (io), 53 IO (io), 54 IO (io), 55 GND (power), 56 IO (io), 57 IO (io), 58 IO (io), 59 IO (io), 60 IO (io), 61 IO (io), 62 IO (io), 63 IO (io), 64 IO (io), 65 GND (power), 66 VCC (power), 67 IO (io), 68 IO (io), 69 IO (io), 70 IO (io), 71 IO (io), 72 IO (io), 73 IO (io), 74 IO (io), 75 GND (power), 76 IO (io), 77 IO (io), 78 IO (io), 79 IO (io), 80 VCC (power), 81 IO (io), 82 IO (io), 83 IO (io), 84 IO (io), 85 IO (io), 86 IO (io), 87 IO (io), 88 IO (io), 89 IO (io), 90 IO (io), 91 IO (io), 92 IO (io), 93 IO (io), 94 IO (io), 95 IO (io), 96 IO (io), 97 IO (io), 98 GND (power), 99 IO (io), 100 IO (io), 101 IO (io), 102 IO (io), 103 GND (power), 104 IO (io), 105 IO (io), 106 GND (power), 107 VCC (power), 108 GND (power), 109 VCC (power), 110 VCC (power), 111 IO (io), 112 IO (io), 113 VCC (power), 114 IO (io), 115 IO (io), 116 IO (io), 117 IO (io), 118 GND (power), 119 IO (io), 120 IO (io), 121 IO (io), 122 IO (io), 123 GND (power), 124 IO (io), 125 IO (io), 126 IO (io), 127 IO (io), 128 IO (io), 129 IO (io), 130 IO (io), 131 SDI/IO (io), 132 IO (io), 133 IO (io), 134 IO (io), 135 IO (io), 136 VCC (power), 137 IO (io), 138 IO (io), 139 IO (io), 140 IO (io), 141 GND (power), 142 IO (io), 143 IO (io), 144 IO (io), 145 IO (io), 146 IO (io), 147 IO (io), 148 PRA/IO (io), 149 IO (io), 150 CLKA/IO (io), 151 VCC (power), 152 GND (power), 153 IO (io), 154 CLKB/IO (io), 155 IO (io), 156 PRB/IO (io), 157 IO (io), 158 IO (io), 159 IO (io), 160 IO (io), 161 GND (power), 162 IO (io), 163 IO (io), 164 IO (io), 165 IO (io), 166 VCC (power), 167 IO (io), 168 IO (io), 169 IO (io), 170 IO (io), 171 DCLK/IO (io), 172 IO (io)

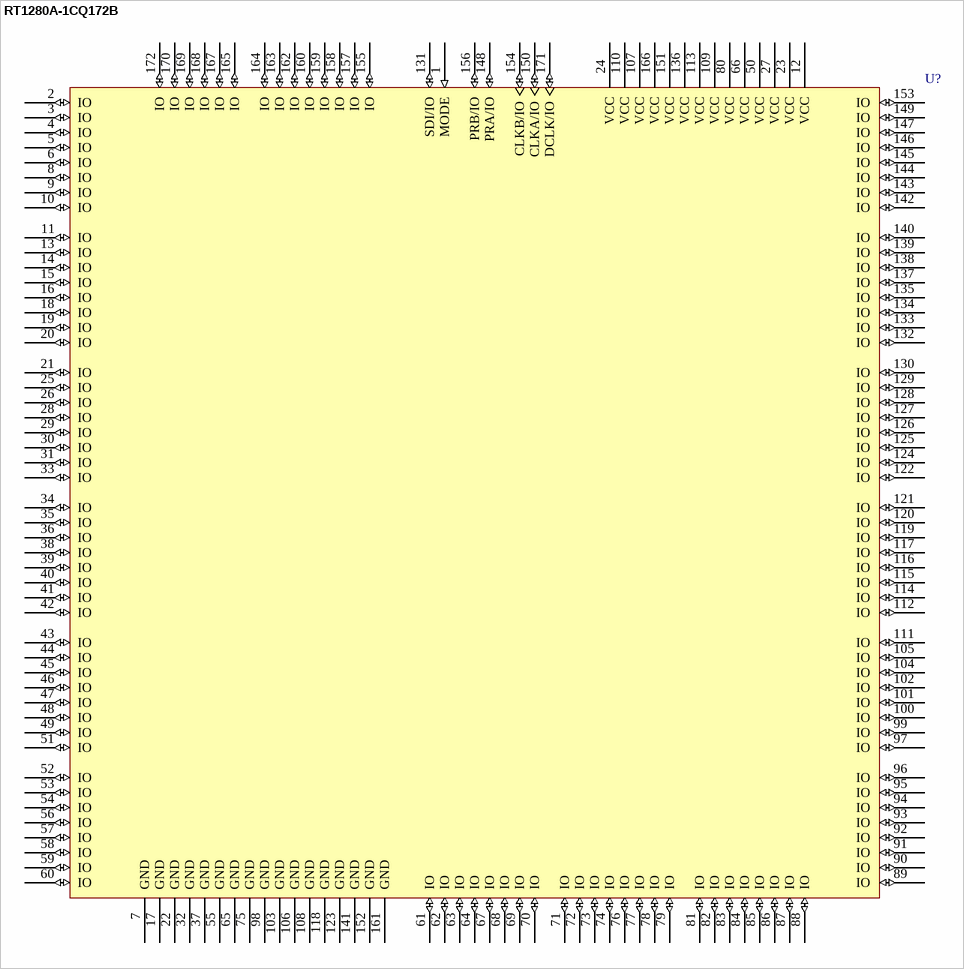
[diagram p58: symbol RT1280A-1CQ172B]

## RT1280A-1CQ172B
designator U?
ACT 2 Series, Radiation Tolerant FPGA, 140 User I/Os, 172 pin CQFP, Speed Grade 1, MIL-STD-883 Grade; Published: 17-Sep-2003; LatestRevisionDate: 13-Apr-2006; LatestRevisionNote: IPC-7351 Footprint Added.; DatasheetVersion: ver3.1, Oct-2004; PackageVersion: v9.2, Apr-2006; PackageReference: CQ172; Publisher: Altium Limited; PackageDescription: 172-Pin Ceramic Quad Flat Pack (CQFP); Code_JEDEC: MO-113-AE; ComponentLink1Description: Manufacturer Link; ComponentLink1URL: http://www.actel.com/; ComponentLink2Description: DataSheet; ComponentLink2URL: http://www.actel.com/documents/RadTolDS.pdf
footprint CQ172_N (CQFP, 172-Leads, Body 30x30mm; Pitch 0.635mm, Gullwing Leadform, IPC Medium Density)
footprint CQ172_L (CQFP, 172-Leads, Body 30x30mm; Pitch 0.635mm, Gullwing Leadform, IPC High Density)
footprint CQ172_M (CQFP, 172-Leads, Body 30x30mm; Pitch 0.635mm, Gullwing Leadform, IPC Low Density)
3D model RT1280A-CQ172 (172-Pin Ceramic Quad Flat Pack (CQFP))
pins: 1 MODE (in), 2 IO (io), 3 IO (io), 4 IO (io), 5 IO (io), 6 IO (io), 7 GND (power), 8 IO (io), 9 IO (io), 10 IO (io), 11 IO (io), 12 VCC (power), 13 IO (io), 14 IO (io), 15 IO (io), 16 IO (io), 17 GND (power), 18 IO (io), 19 IO (io), 20 IO (io), 21 IO (io), 22 GND (power), 23 VCC (power), 24 VCC (power), 25 IO (io), 26 IO (io), 27 VCC (power), 28 IO (io), 29 IO (io), 30 IO (io), 31 IO (io), 32 GND (power), 33 IO (io), 34 IO (io), 35 IO (io), 36 IO (io), 37 GND (power), 38 IO (io), 39 IO (io), 40 IO (io), 41 IO (io), 42 IO (io), 43 IO (io), 44 IO (io), 45 IO (io), 46 IO (io), 47 IO (io), 48 IO (io), 49 IO (io), 50 VCC (power), 51 IO (io), 52 IO (io), 53 IO (io), 54 IO (io), 55 GND (power), 56 IO (io), 57 IO (io), 58 IO (io), 59 IO (io), 60 IO (io), 61 IO (io), 62 IO (io), 63 IO (io), 64 IO (io), 65 GND (power), 66 VCC (power), 67 IO (io), 68 IO (io), 69 IO (io), 70 IO (io), 71 IO (io), 72 IO (io), 73 IO (io), 74 IO (io), 75 GND (power), 76 IO (io), 77 IO (io), 78 IO (io), 79 IO (io), 80 VCC (power), 81 IO (io), 82 IO (io), 83 IO (io), 84 IO (io), 85 IO (io), 86 IO (io), 87 IO (io), 88 IO (io), 89 IO (io), 90 IO (io), 91 IO (io), 92 IO (io), 93 IO (io), 94 IO (io), 95 IO (io), 96 IO (io), 97 IO (io), 98 GND (power), 99 IO (io), 100 IO (io), 101 IO (io), 102 IO (io), 103 GND (power), 104 IO (io), 105 IO (io), 106 GND (power), 107 VCC (power), 108 GND (power), 109 VCC (power), 110 VCC (power), 111 IO (io), 112 IO (io), 113 VCC (power), 114 IO (io), 115 IO (io), 116 IO (io), 117 IO (io), 118 GND (power), 119 IO (io), 120 IO (io), 121 IO (io), 122 IO (io), 123 GND (power), 124 IO (io), 125 IO (io), 126 IO (io), 127 IO (io), 128 IO (io), 129 IO (io), 130 IO (io), 131 SDI/IO (io), 132 IO (io), 133 IO (io), 134 IO (io), 135 IO (io), 136 VCC (power), 137 IO (io), 138 IO (io), 139 IO (io), 140 IO (io), 141 GND (power), 142 IO (io), 143 IO (io), 144 IO (io), 145 IO (io), 146 IO (io), 147 IO (io), 148 PRA/IO (io), 149 IO (io), 150 CLKA/IO (io), 151 VCC (power), 152 GND (power), 153 IO (io), 154 CLKB/IO (io), 155 IO (io), 156 PRB/IO (io), 157 IO (io), 158 IO (io), 159 IO (io), 160 IO (io), 161 GND (power), 162 IO (io), 163 IO (io), 164 IO (io), 165 IO (io), 166 VCC (power), 167 IO (io), 168 IO (io), 169 IO (io), 170 IO (io), 171 DCLK/IO (io), 172 IO (io)

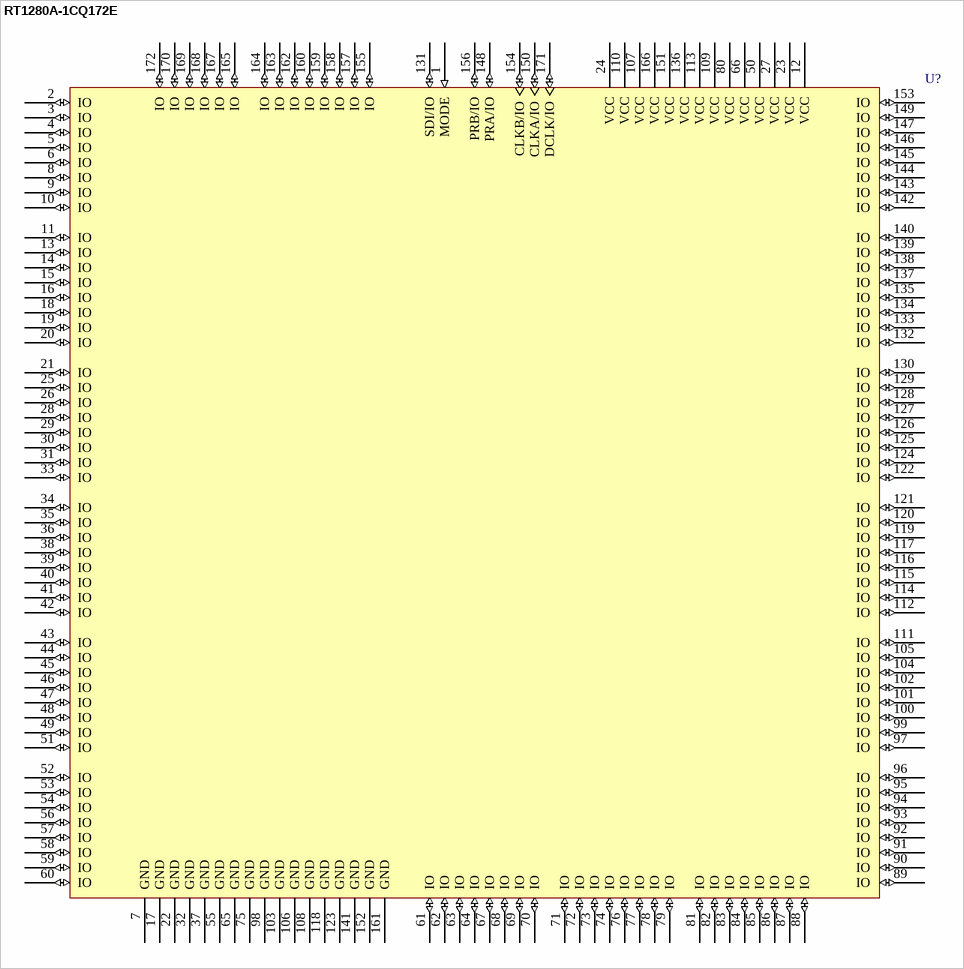
[diagram p59: symbol RT1280A-1CQ172E]

## RT1280A-1CQ172E
designator U?
ACT 2 Series, Radiation Tolerant FPGA, 140 User I/Os, 172 pin CQFP, Speed Grade 1, Extended Flow Grade; Published: 17-Sep-2003; LatestRevisionDate: 13-Apr-2006; LatestRevisionNote: IPC-7351 Footprint Added.; DatasheetVersion: ver3.1, Oct-2004; PackageVersion: v9.2, Apr-2006; PackageReference: CQ172; Publisher: Altium Limited; PackageDescription: 172-Pin Ceramic Quad Flat Pack (CQFP); Code_JEDEC: MO-113-AE; ComponentLink1Description: Manufacturer Link; ComponentLink1URL: http://www.actel.com/; ComponentLink2Description: DataSheet; ComponentLink2URL: http://www.actel.com/documents/RadTolDS.pdf
footprint CQ172_N (CQFP, 172-Leads, Body 30x30mm; Pitch 0.635mm, Gullwing Leadform, IPC Medium Density)
footprint CQ172_L (CQFP, 172-Leads, Body 30x30mm; Pitch 0.635mm, Gullwing Leadform, IPC High Density)
footprint CQ172_M (CQFP, 172-Leads, Body 30x30mm; Pitch 0.635mm, Gullwing Leadform, IPC Low Density)
3D model RT1280A-CQ172 (172-Pin Ceramic Quad Flat Pack (CQFP))
pins: 1 MODE (in), 2 IO (io), 3 IO (io), 4 IO (io), 5 IO (io), 6 IO (io), 7 GND (power), 8 IO (io), 9 IO (io), 10 IO (io), 11 IO (io), 12 VCC (power), 13 IO (io), 14 IO (io), 15 IO (io), 16 IO (io), 17 GND (power), 18 IO (io), 19 IO (io), 20 IO (io), 21 IO (io), 22 GND (power), 23 VCC (power), 24 VCC (power), 25 IO (io), 26 IO (io), 27 VCC (power), 28 IO (io), 29 IO (io), 30 IO (io), 31 IO (io), 32 GND (power), 33 IO (io), 34 IO (io), 35 IO (io), 36 IO (io), 37 GND (power), 38 IO (io), 39 IO (io), 40 IO (io), 41 IO (io), 42 IO (io), 43 IO (io), 44 IO (io), 45 IO (io), 46 IO (io), 47 IO (io), 48 IO (io), 49 IO (io), 50 VCC (power), 51 IO (io), 52 IO (io), 53 IO (io), 54 IO (io), 55 GND (power), 56 IO (io), 57 IO (io), 58 IO (io), 59 IO (io), 60 IO (io), 61 IO (io), 62 IO (io), 63 IO (io), 64 IO (io), 65 GND (power), 66 VCC (power), 67 IO (io), 68 IO (io), 69 IO (io), 70 IO (io), 71 IO (io), 72 IO (io), 73 IO (io), 74 IO (io), 75 GND (power), 76 IO (io), 77 IO (io), 78 IO (io), 79 IO (io), 80 VCC (power), 81 IO (io), 82 IO (io), 83 IO (io), 84 IO (io), 85 IO (io), 86 IO (io), 87 IO (io), 88 IO (io), 89 IO (io), 90 IO (io), 91 IO (io), 92 IO (io), 93 IO (io), 94 IO (io), 95 IO (io), 96 IO (io), 97 IO (io), 98 GND (power), 99 IO (io), 100 IO (io), 101 IO (io), 102 IO (io), 103 GND (power), 104 IO (io), 105 IO (io), 106 GND (power), 107 VCC (power), 108 GND (power), 109 VCC (power), 110 VCC (power), 111 IO (io), 112 IO (io), 113 VCC (power), 114 IO (io), 115 IO (io), 116 IO (io), 117 IO (io), 118 GND (power), 119 IO (io), 120 IO (io), 121 IO (io), 122 IO (io), 123 GND (power), 124 IO (io), 125 IO (io), 126 IO (io), 127 IO (io), 128 IO (io), 129 IO (io), 130 IO (io), 131 SDI/IO (io), 132 IO (io), 133 IO (io), 134 IO (io), 135 IO (io), 136 VCC (power), 137 IO (io), 138 IO (io), 139 IO (io), 140 IO (io), 141 GND (power), 142 IO (io), 143 IO (io), 144 IO (io), 145 IO (io), 146 IO (io), 147 IO (io), 148 PRA/IO (io), 149 IO (io), 150 CLKA/IO (io), 151 VCC (power), 152 GND (power), 153 IO (io), 154 CLKB/IO (io), 155 IO (io), 156 PRB/IO (io), 157 IO (io), 158 IO (io), 159 IO (io), 160 IO (io), 161 GND (power), 162 IO (io), 163 IO (io), 164 IO (io), 165 IO (io), 166 VCC (power), 167 IO (io), 168 IO (io), 169 IO (io), 170 IO (io), 171 DCLK/IO (io), 172 IO (io)

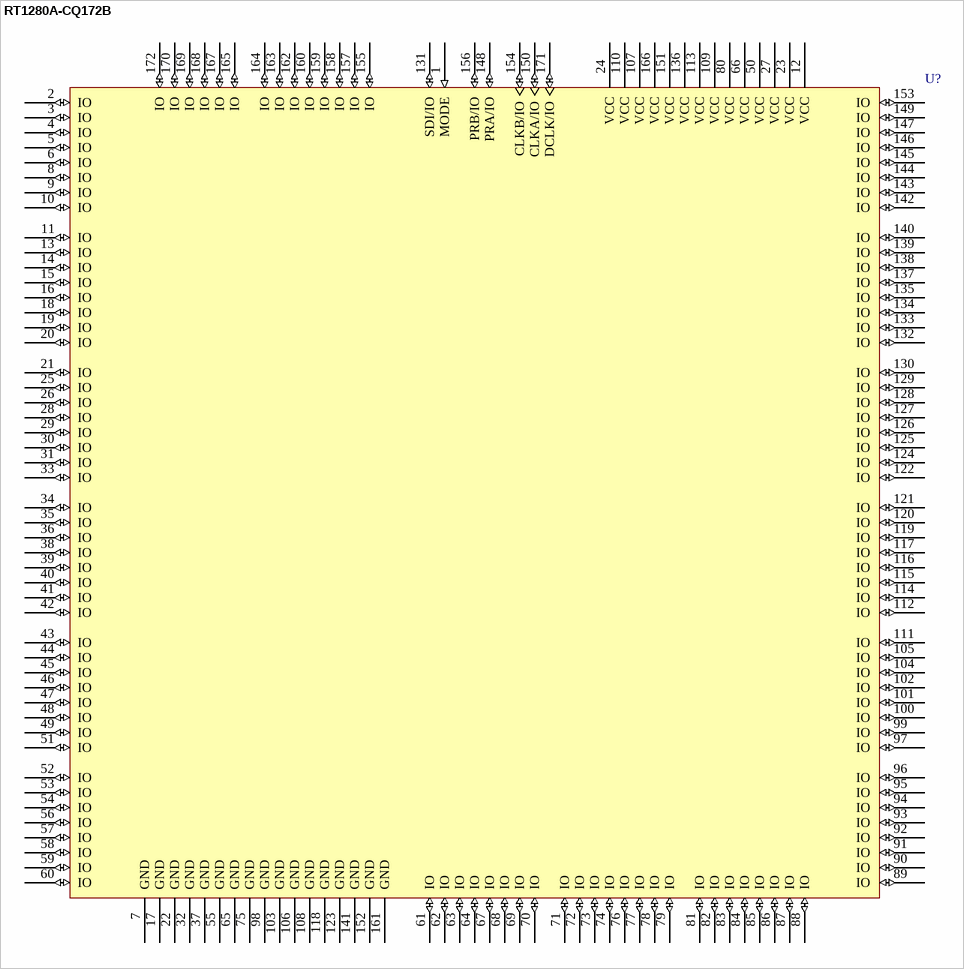
[diagram p60: symbol RT1280A-CQ172B]

## RT1280A-CQ172B
designator U?
ACT 2 Series, Radiation Tolerant FPGA, 140 User I/Os, 172 pin CQFP, Standard Speed Grade, MIL-STD-883 Grade; Published: 17-Sep-2003; LatestRevisionDate: 13-Apr-2006; LatestRevisionNote: IPC-7351 Footprint Added.; DatasheetVersion: ver3.1, Oct-2004; PackageVersion: v9.2, Apr-2006; PackageReference: CQ172; Publisher: Altium Limited; PackageDescription: 172-Pin Ceramic Quad Flat Pack (CQFP); Code_JEDEC: MO-113-AE; ComponentLink1Description: Manufacturer Link; ComponentLink1URL: http://www.actel.com/; ComponentLink2Description: DataSheet; ComponentLink2URL: http://www.actel.com/documents/RadTolDS.pdf
footprint CQ172_N (CQFP, 172-Leads, Body 30x30mm; Pitch 0.635mm, Gullwing Leadform, IPC Medium Density)
footprint CQ172_L (CQFP, 172-Leads, Body 30x30mm; Pitch 0.635mm, Gullwing Leadform, IPC High Density)
footprint CQ172_M (CQFP, 172-Leads, Body 30x30mm; Pitch 0.635mm, Gullwing Leadform, IPC Low Density)
3D model RT1280A-CQ172 (172-Pin Ceramic Quad Flat Pack (CQFP))
pins: 1 MODE (in), 2 IO (io), 3 IO (io), 4 IO (io), 5 IO (io), 6 IO (io), 7 GND (power), 8 IO (io), 9 IO (io), 10 IO (io), 11 IO (io), 12 VCC (power), 13 IO (io), 14 IO (io), 15 IO (io), 16 IO (io), 17 GND (power), 18 IO (io), 19 IO (io), 20 IO (io), 21 IO (io), 22 GND (power), 23 VCC (power), 24 VCC (power), 25 IO (io), 26 IO (io), 27 VCC (power), 28 IO (io), 29 IO (io), 30 IO (io), 31 IO (io), 32 GND (power), 33 IO (io), 34 IO (io), 35 IO (io), 36 IO (io), 37 GND (power), 38 IO (io), 39 IO (io), 40 IO (io), 41 IO (io), 42 IO (io), 43 IO (io), 44 IO (io), 45 IO (io), 46 IO (io), 47 IO (io), 48 IO (io), 49 IO (io), 50 VCC (power), 51 IO (io), 52 IO (io), 53 IO (io), 54 IO (io), 55 GND (power), 56 IO (io), 57 IO (io), 58 IO (io), 59 IO (io), 60 IO (io), 61 IO (io), 62 IO (io), 63 IO (io), 64 IO (io), 65 GND (power), 66 VCC (power), 67 IO (io), 68 IO (io), 69 IO (io), 70 IO (io), 71 IO (io), 72 IO (io), 73 IO (io), 74 IO (io), 75 GND (power), 76 IO (io), 77 IO (io), 78 IO (io), 79 IO (io), 80 VCC (power), 81 IO (io), 82 IO (io), 83 IO (io), 84 IO (io), 85 IO (io), 86 IO (io), 87 IO (io), 88 IO (io), 89 IO (io), 90 IO (io), 91 IO (io), 92 IO (io), 93 IO (io), 94 IO (io), 95 IO (io), 96 IO (io), 97 IO (io), 98 GND (power), 99 IO (io), 100 IO (io), 101 IO (io), 102 IO (io), 103 GND (power), 104 IO (io), 105 IO (io), 106 GND (power), 107 VCC (power), 108 GND (power), 109 VCC (power), 110 VCC (power), 111 IO (io), 112 IO (io), 113 VCC (power), 114 IO (io), 115 IO (io), 116 IO (io), 117 IO (io), 118 GND (power), 119 IO (io), 120 IO (io), 121 IO (io), 122 IO (io), 123 GND (power), 124 IO (io), 125 IO (io), 126 IO (io), 127 IO (io), 128 IO (io), 129 IO (io), 130 IO (io), 131 SDI/IO (io), 132 IO (io), 133 IO (io), 134 IO (io), 135 IO (io), 136 VCC (power), 137 IO (io), 138 IO (io), 139 IO (io), 140 IO (io), 141 GND (power), 142 IO (io), 143 IO (io), 144 IO (io), 145 IO (io), 146 IO (io), 147 IO (io), 148 PRA/IO (io), 149 IO (io), 150 CLKA/IO (io), 151 VCC (power), 152 GND (power), 153 IO (io), 154 CLKB/IO (io), 155 IO (io), 156 PRB/IO (io), 157 IO (io), 158 IO (io), 159 IO (io), 160 IO (io), 161 GND (power), 162 IO (io), 163 IO (io), 164 IO (io), 165 IO (io), 166 VCC (power), 167 IO (io), 168 IO (io), 169 IO (io), 170 IO (io), 171 DCLK/IO (io), 172 IO (io)

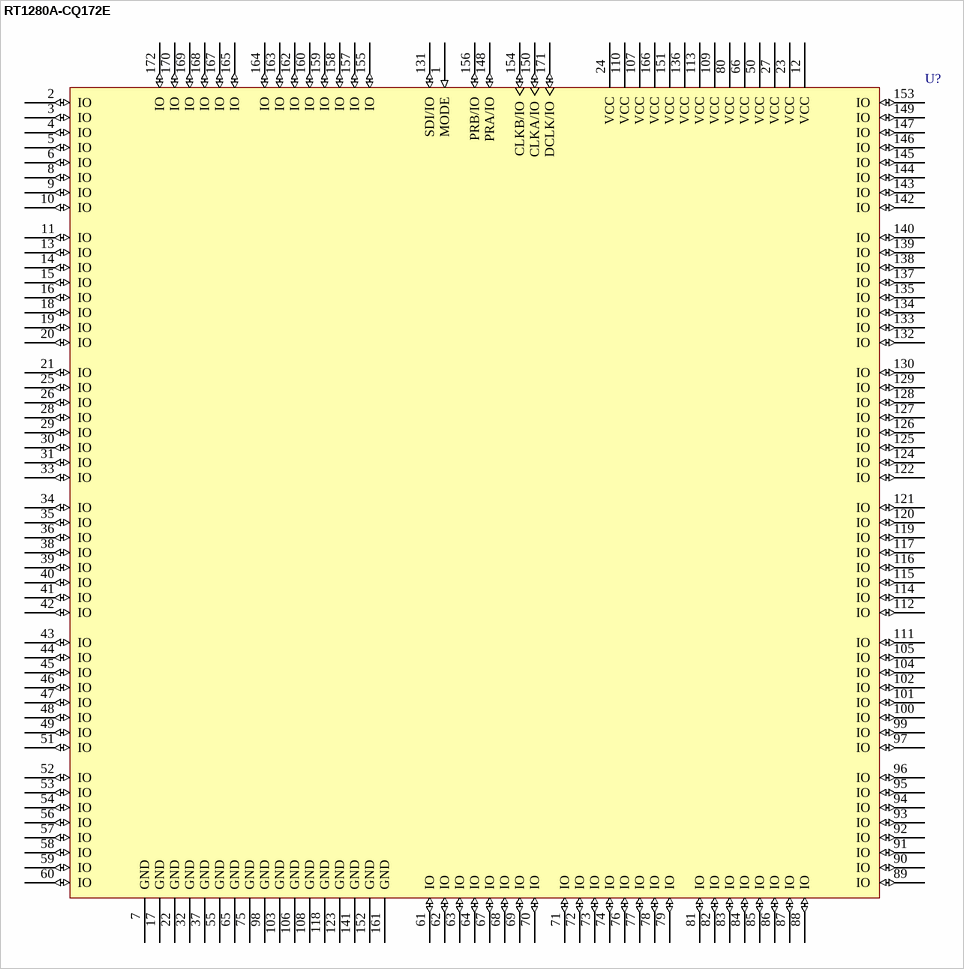
[diagram p61: symbol RT1280A-CQ172E]

## RT1280A-CQ172E
designator U?
ACT 2 Series, Radiation Tolerant FPGA, 140 User I/Os, 172 pin CQFP, Standard Speed Grade, Extended Flow Grade; Published: 17-Sep-2003; LatestRevisionDate: 13-Apr-2006; LatestRevisionNote: IPC-7351 Footprint Added.; DatasheetVersion: ver3.1, Oct-2004; PackageVersion: v9.2, Apr-2006; PackageReference: CQ172; Publisher: Altium Limited; PackageDescription: 172-Pin Ceramic Quad Flat Pack (CQFP); Code_JEDEC: MO-113-AE; ComponentLink1Description: Manufacturer Link; ComponentLink1URL: http://www.actel.com/; ComponentLink2Description: DataSheet; ComponentLink2URL: http://www.actel.com/documents/RadTolDS.pdf
footprint CQ172_N (CQFP, 172-Leads, Body 30x30mm; Pitch 0.635mm, Gullwing Leadform, IPC Medium Density)
footprint CQ172_L (CQFP, 172-Leads, Body 30x30mm; Pitch 0.635mm, Gullwing Leadform, IPC High Density)
footprint CQ172_M (CQFP, 172-Leads, Body 30x30mm; Pitch 0.635mm, Gullwing Leadform, IPC Low Density)
3D model RT1280A-CQ172 (172-Pin Ceramic Quad Flat Pack (CQFP))
pins: 1 MODE (in), 2 IO (io), 3 IO (io), 4 IO (io), 5 IO (io), 6 IO (io), 7 GND (power), 8 IO (io), 9 IO (io), 10 IO (io), 11 IO (io), 12 VCC (power), 13 IO (io), 14 IO (io), 15 IO (io), 16 IO (io), 17 GND (power), 18 IO (io), 19 IO (io), 20 IO (io), 21 IO (io), 22 GND (power), 23 VCC (power), 24 VCC (power), 25 IO (io), 26 IO (io), 27 VCC (power), 28 IO (io), 29 IO (io), 30 IO (io), 31 IO (io), 32 GND (power), 33 IO (io), 34 IO (io), 35 IO (io), 36 IO (io), 37 GND (power), 38 IO (io), 39 IO (io), 40 IO (io), 41 IO (io), 42 IO (io), 43 IO (io), 44 IO (io), 45 IO (io), 46 IO (io), 47 IO (io), 48 IO (io), 49 IO (io), 50 VCC (power), 51 IO (io), 52 IO (io), 53 IO (io), 54 IO (io), 55 GND (power), 56 IO (io), 57 IO (io), 58 IO (io), 59 IO (io), 60 IO (io), 61 IO (io), 62 IO (io), 63 IO (io), 64 IO (io), 65 GND (power), 66 VCC (power), 67 IO (io), 68 IO (io), 69 IO (io), 70 IO (io), 71 IO (io), 72 IO (io), 73 IO (io), 74 IO (io), 75 GND (power), 76 IO (io), 77 IO (io), 78 IO (io), 79 IO (io), 80 VCC (power), 81 IO (io), 82 IO (io), 83 IO (io), 84 IO (io), 85 IO (io), 86 IO (io), 87 IO (io), 88 IO (io), 89 IO (io), 90 IO (io), 91 IO (io), 92 IO (io), 93 IO (io), 94 IO (io), 95 IO (io), 96 IO (io), 97 IO (io), 98 GND (power), 99 IO (io), 100 IO (io), 101 IO (io), 102 IO (io), 103 GND (power), 104 IO (io), 105 IO (io), 106 GND (power), 107 VCC (power), 108 GND (power), 109 VCC (power), 110 VCC (power), 111 IO (io), 112 IO (io), 113 VCC (power), 114 IO (io), 115 IO (io), 116 IO (io), 117 IO (io), 118 GND (power), 119 IO (io), 120 IO (io), 121 IO (io), 122 IO (io), 123 GND (power), 124 IO (io), 125 IO (io), 126 IO (io), 127 IO (io), 128 IO (io), 129 IO (io), 130 IO (io), 131 SDI/IO (io), 132 IO (io), 133 IO (io), 134 IO (io), 135 IO (io), 136 VCC (power), 137 IO (io), 138 IO (io), 139 IO (io), 140 IO (io), 141 GND (power), 142 IO (io), 143 IO (io), 144 IO (io), 145 IO (io), 146 IO (io), 147 IO (io), 148 PRA/IO (io), 149 IO (io), 150 CLKA/IO (io), 151 VCC (power), 152 GND (power), 153 IO (io), 154 CLKB/IO (io), 155 IO (io), 156 PRB/IO (io), 157 IO (io), 158 IO (io), 159 IO (io), 160 IO (io), 161 GND (power), 162 IO (io), 163 IO (io), 164 IO (io), 165 IO (io), 166 VCC (power), 167 IO (io), 168 IO (io), 169 IO (io), 170 IO (io), 171 DCLK/IO (io), 172 IO (io)